# Altium schematic symbol library ICs.SchLib: 88 symbols (part 1 of 2)
Pins are listed as number, name and electrical type; pins without a type are passive.

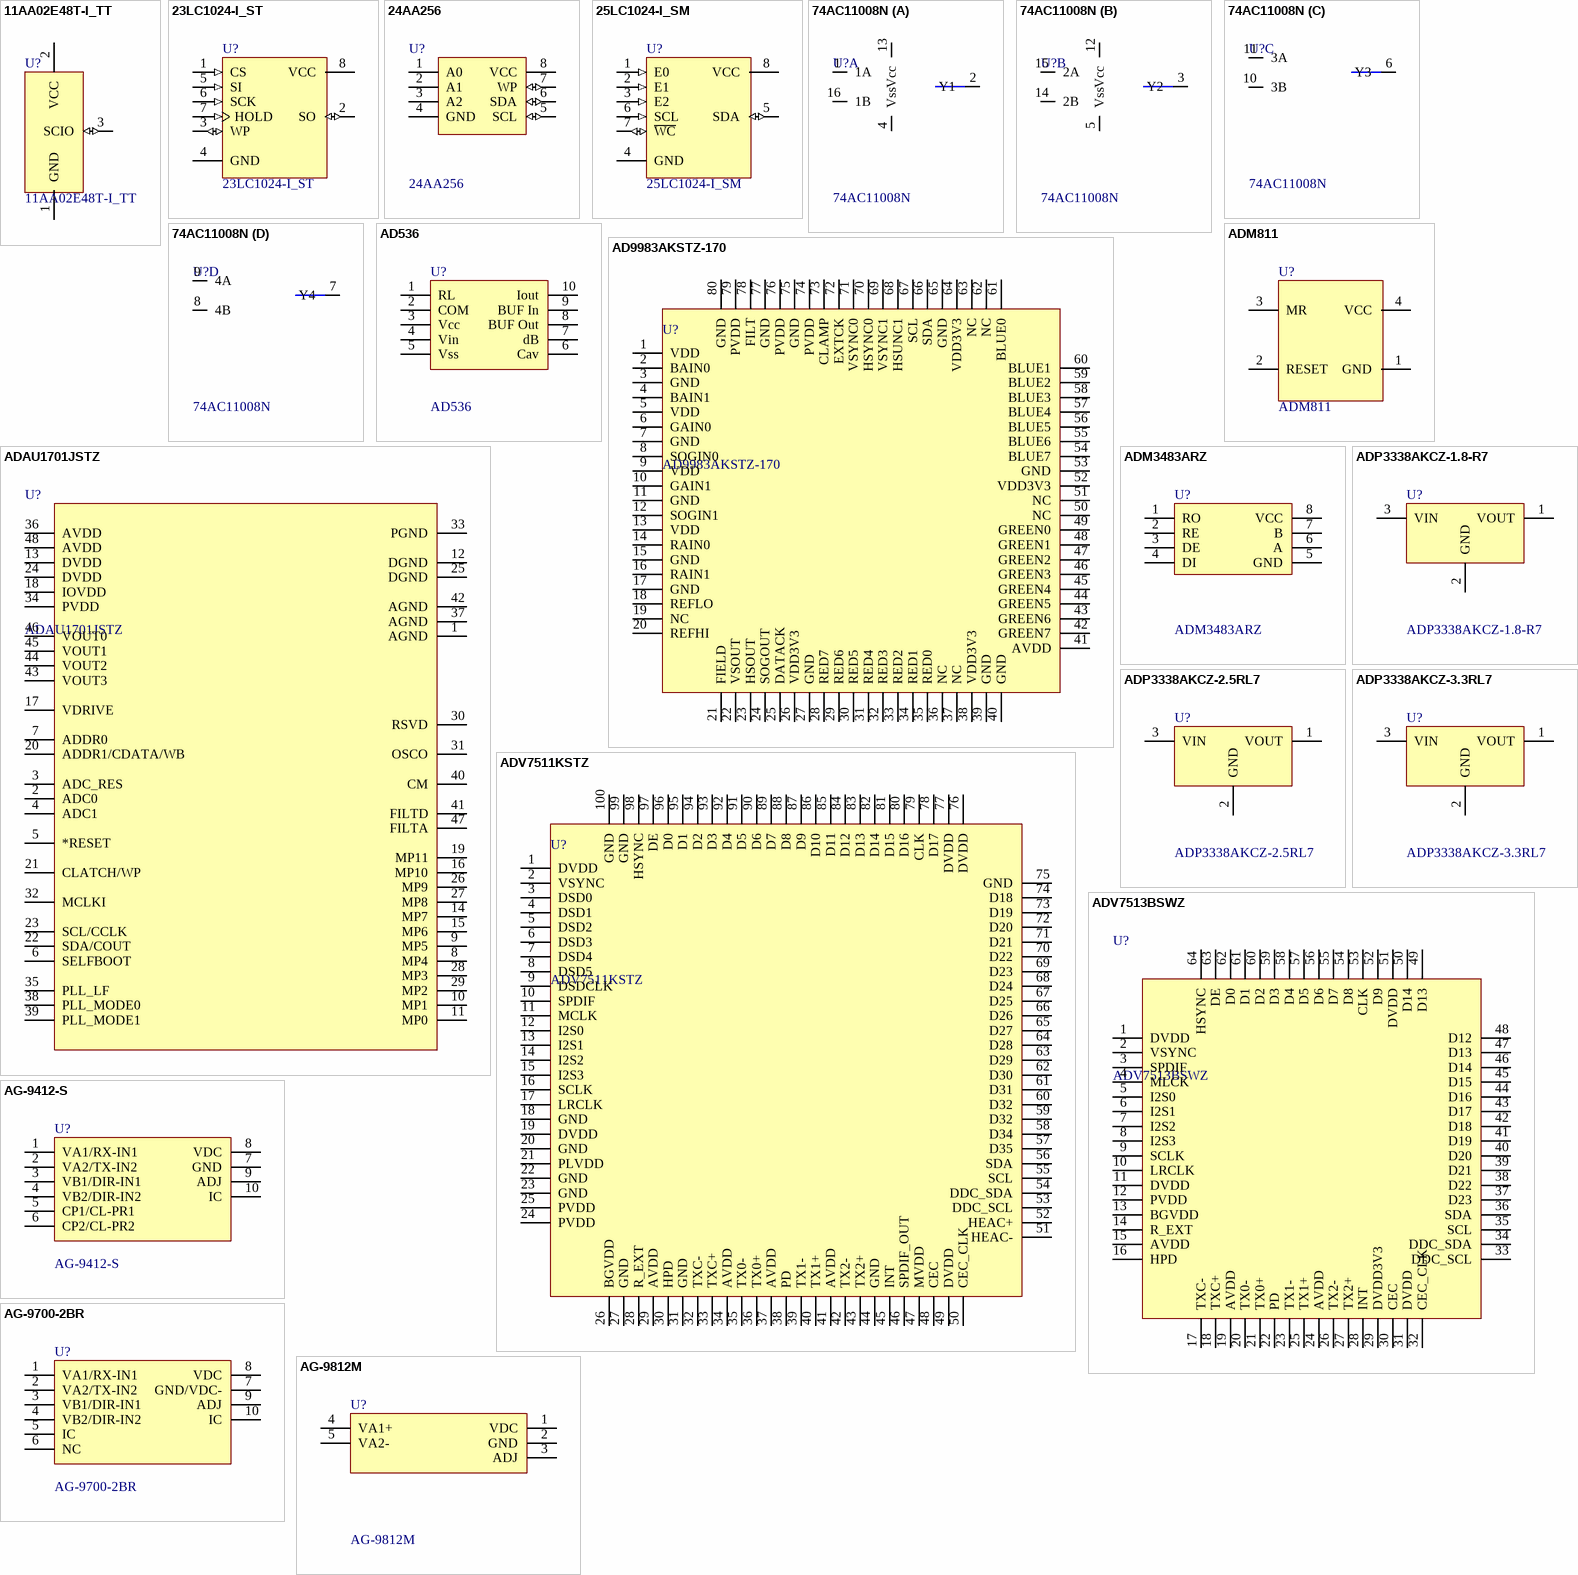
[diagram p0: symbols 11AA02E48T-I_TT to AG-9812M]

## 11AA02E48T-I_TT
designator U?
2 kbit Serial  EEPROM; Deliverer PartNr: 1707616RL; Manufacturer PartNr: 11AA02E48T-I/TT; Manufacturer: Microchip; Deliverer: Farnell; TDE-PN: IC0035; Published: 12.02.2014; PackageDescription: SOT23; Publisher: Sebastian Kulik
footprint SOT23_M (SOT23, 3-Leads, Body 2.9x1.3mm, Pitch 0.95mm, Lead Span 2.3mm - Reverse Pinning, IPC Low Density)
pins: 1 GND (power), 2 VCC (power), 3 SCIO (io)

## 23LC1024-I_ST
designator U?
1 Mbit Serial  EEPROM; Deliverer PartNr: 2212151; Manufacturer PartNr: 23LC1024-I/ST; Manufacturer: Microchip; Deliverer: Farnell; TDE-PN: IC0034; Published: 12.02.2014; PackageDescription: TSSOP8; Publisher: Sebastian Kulik
footprint TSSOP8 (Shrink Small Outline, Plastic, Thin; 8 Leads; Body Width 4.4 mm; Pitch 0.65 mm)
pins: 1 CS (in), 2 SO (io), 3 WP (io), 4 GND (power), 5 SI (in), 6 SCK (in), 7 HOLD (in), 8 VCC (power)

## 24AA256
designator U?
I2C  EEPROM; Deliverer PartNr: 1331295; Manufacturer: Microchip; Deliverer: Farnell; TDE-PN: IC0005; Published: 28.03.2014; PackageDescription: TSSOP8; Publisher: Sebastian Kulik; Manufacturer PartNr: 24AA256
footprint TSSOP8 (Shrink Small Outline, Plastic, Thin; 8 Leads; Body Width 4.4 mm; Pitch 0.65 mm)
pins: 1 A0, 2 A1, 3 A2, 4 GND (power), 5 SCL (io), 6 SDA (io), 7 WP (io), 8 VCC (power)

## 25LC1024-I_SM
designator U?
1024 Kbit Serial SPI Bus EEPROM; Deliverer PartNr: 1331393; Manufacturer: Microchip; Deliverer: Farnell; TDE-PN: IC0033; Published: 12.02.2014; PackageDescription: SOP8; Publisher: Sebastian Kulik; Manufacturer PartNr: 25LC1024-I_SM
footprint SOP8_N (SOIC, 8-Leads, Body 4.9x3.9mm, Pitch 1.27mm, IPC Medium Density)
footprint SOP8_L (SOIC, 8-Leads, Body 4.9x3.9mm, Pitch 1.27mm, IPC High Density)
footprint SOP8_M (SOIC, 8-Leads, Body 4.9x3.9mm, Pitch 1.27mm, IPC Low Density)
pins: 1 E0 (in), 2 E1 (in), 3 E2 (in), 4 GND (power), 5 SDA (io), 6 SCL (in), 7 ~{WC} (io), 8 VCC (power)

## 74AC11008N
designator U?
Quad AND, TTL; Deliverer PartNr: 1749860; Manufacturer: TI; Deliverer: Farnell; TDE-PN: IC0083; Published: 16.08.2016; PackageDescription: SOIC16; Publisher: Sebastian Kulik; Manufacturer PartNr: 74AC11008N; Price: 1.45
footprint DIP-16 (DIP; 16 Leads; Row Spacing 7.62 mm; Pitch 2.54 mm)
footprint SO-16_L (SOIC, 16-Leads, Body 9.9x3.9mm, Pitch 1.27mm, IPC High Density)
part A pins: 1 1A, 2 Y1, 4 Vss, 13 Vcc, 16 1B
part B pins: 3 Y2, 5 Vss, 12 Vcc, 14 2B, 15 2A
part C pins: 6 Y3, 10 3B, 11 3A
part D pins: 7 Y4, 8 4B, 9 4A

## AD536
designator U?
RMS converter; Deliverer PartNr: 405360; Manufacturer PartNr: AD536AJH; Manufacturer: ADI; Deliverer: Farnell; TDE-PN: IC0054; Published: 24.10.2014; PackageDescription: TO100-10; Publisher: Sebastian Kulik
footprint TO100-10 (TO100-10 Pin, 4mm radius)
pins: 1 RL, 2 COM, 3 Vcc, 4 Vin, 5 Vss, 6 Cav, 7 dB, 8 BUF Out, 9 BUF In, 10 Iout

## AD9983AKSTZ-170
designator U?
8 bit display interface; Deliverer PartNr: 759-2124; Manufacturer: ADI; Deliverer: RS-Components; TDE-PN: IC0008; Published: 27.03.2014; PackageDescription: TQFP80; Publisher: Sebastian Kulik; Manufacturer PartNr: AD9983AKSTZ-170
footprint TQFP80-1_L (Thin QFP, 80-Leads, Body 12x12mm, Pitch 0.5mm, IPC High Density)
footprint TQFP80-1_N (Thin QFP, 80-Leads, Body 12x12mm, Pitch 0.5mm, IPC Medium Density)
footprint TQFP80-1_N (Thin QFP, 80-Leads, Body 12x12mm, Pitch 0.5mm, IPC Medium Density)
pins: 1 VDD, 2 BAIN0, 3 GND, 4 BAIN1, 5 VDD, 6 GAIN0, 7 GND, 8 SOGIN0, 9 VDD, 10 GAIN1, 11 GND, 12 SOGIN1, 13 VDD, 14 RAIN0, 15 GND, 16 RAIN1, 17 GND, 18 REFLO, 19 NC, 20 REFHI, 21 FIELD, 22 VSOUT, 23 HSOUT, 24 SOGOUT, 25 DATACK, 26 VDD3V3, 27 GND, 28 RED7, 29 RED6, 30 RED5, 31 RED4, 32 RED3, 33 RED2, 34 RED1, 35 RED0, 36 NC, 37 NC, 38 VDD3V3, 39 GND, 40 GND, 41 AVDD, 42 GREEN7, 43 GREEN6, 44 GREEN5, 45 GREEN4, 46 GREEN3, 47 GREEN2, 48 GREEN1, 49 GREEN0, 50 NC, 51 NC, 52 VDD3V3, 53 GND, 54 BLUE7, 55 BLUE6, 56 BLUE5, 57 BLUE4, 58 BLUE3, 59 BLUE2, 60 BLUE1, 61 BLUE0, 62 NC, 63 NC, 64 VDD3V3, 65 GND, 66 SDA, 67 SCL, 68 HSUNC1, 69 VSYNC1, 70 HSYNC0, 71 VSYNC0, 72 EXTCK, 73 CLAMP, 74 PVDD, 75 GND, 76 PVDD, 77 GND, 78 FILT, 79 PVDD, 80 GND

## ADAU1701JSTZ
designator U?
Sigma DSP; Deliverer PartNr: 1498728; Manufacturer: ADI; Deliverer: Farnell; TDE-PN: IC0045; Published: 28.03.2014; PackageDescription: TQFP48; Publisher: Sebastian Kulik; Manufacturer PartNr: ADAU1701JSTZ
footprint TQFP48
pins: 1 AGND, 2 ADC0, 3 ADC_RES, 4 ADC1, 5 *RESET, 6 SELFBOOT, 7 ADDR0, 8 MP4, 9 MP5, 10 MP1, 11 MP0, 12 DGND, 13 DVDD, 14 MP7, 15 MP6, 16 MP10, 17 VDRIVE, 18 IOVDD, 19 MP11, 20 ADDR1/CDATA/WB, 21 CLATCH/WP, 22 SDA/COUT, 23 SCL/CCLK, 24 DVDD, 25 DGND, 26 MP9, 27 MP8, 28 MP3, 29 MP2, 30 RSVD, 31 OSCO, 32 MCLKI, 33 PGND, 34 PVDD, 35 PLL_LF, 36 AVDD, 37 AGND, 38 PLL_MODE0, 39 PLL_MODE1, 40 CM, 41 FILTD, 42 AGND, 43 VOUT3, 44 VOUT2, 45 VOUT1, 46 VOUT0, 47 FILTA, 48 AVDD

## ADM811
designator U?
ADI Supervisor Reset, 3V3; Deliverer PartNr: 2074891RL; Manufacturer PartNr: ADM811LARTZ-REEL7; Deliverer: Farnell; TDE-PN: IC0009; Published: 26.03.2014; PackageDescription: SOT143; Publisher: Sebastian Kulik; Manufacturer: ADI
footprint SOT124
pins: 1 GND, 2 RESET, 3 MR, 4 VCC (power)

## ADM3483ARZ
designator U?
Transceiver, RS485/422; Deliverer PartNr: 1274169; Manufacturer: ADI; Deliverer: Farnell; TDE-PN: IC0041; Published: 25.02.2014; PackageDescription: TSSOP8; Publisher: Sebastian Kulik; Manufacturer PartNr: ADM3483ARZ
footprint SOIC8_N (SOIC, 8-Leads, Body 4.9x3.9mm, Pitch 1.27mm, IPC Medium Density)
pins: 1 RO, 2 RE, 3 DE, 4 DI, 5 GND, 6 A, 7 B, 8 VCC (power)

## ADP3338AKCZ-1.8-R7
designator U?
LDO, 1V8_1A; Deliverer PartNr: 2112616; Manufacturer: ADI; Deliverer: Farnell; TDE-PN: IC0001; Published: 26.03.2014; PackageDescription: SOT223-1; Publisher: Sebastian Kulik; Manufacturer PartNr: ADP3338AKCZ-1.8-R7
footprint SOT223-1
pins: 1 VOUT, 2 GND, 3 VIN

## ADP3338AKCZ-2.5RL7
designator U?
LDO, 2V5_1A; Deliverer PartNr: 1651282RL; Manufacturer: ADI; Deliverer: Farnell; TDE-PN: IC0002; Published: 26.03.2014; PackageDescription: SOT223-1; Publisher: Sebastian Kulik; Manufacturer PartNr: ADP3338AKCZ-2.5RL7
footprint SOT223-1
pins: 1 VOUT, 2 GND, 3 VIN

## ADP3338AKCZ-3.3RL7
designator U?
LDO, 3V3_1A; Deliverer PartNr: 1651283; Manufacturer: ADI; Deliverer: Farnell; TDE-PN: IC0003; Published: 26.03.2014; PackageDescription: SOT223-1; Publisher: Sebastian Kulik; Manufacturer PartNr: ADP3338AKCZ-3.3RL7
footprint SOT223-1
pins: 1 VOUT, 2 GND, 3 VIN

## ADV7511KSTZ
designator U?
HDMI interface; Deliverer PartNr: 2312822; Manufacturer: ADI; Deliverer: Farnell; TDE-PN: IC0010; Published: 27.03.2014; PackageDescription: LQFP100; Publisher: Sebastian Kulik; Manufacturer PartNr: ADV7511KSTZ
footprint LQFP100
pins: 1 DVDD, 2 VSYNC, 3 DSD0, 4 DSD1, 5 DSD2, 6 DSD3, 7 DSD4, 8 DSD5, 9 DSDCLK, 10 SPDIF, 11 MCLK, 12 I2S0, 13 I2S1, 14 I2S2, 15 I2S3, 16 SCLK, 17 LRCLK, 18 GND, 19 DVDD, 20 GND, 21 PLVDD, 22 GND, 23 GND, 24 PVDD, 25 PVDD, 26 BGVDD, 27 GND, 28 R_EXT, 29 AVDD, 30 HPD, 31 GND, 32 TXC-, 33 TXC+, 34 AVDD, 35 TX0-, 36 TX0+, 37 AVDD, 38 PD, 39 TX1-, 40 TX1+, 41 AVDD, 42 TX2-, 43 TX2+, 44 GND, 45 INT, 46 SPDIF_OUT, 47 MVDD, 48 CEC, 49 DVDD, 50 CEC_CLK, 51 HEAC-, 52 HEAC+, 53 DDC_SCL, 54 DDC_SDA, 55 SCL, 56 SDA, 57 D35, 58 D34, 59 D32, 60 D32, 61 D31, 62 D30, 63 D29, 64 D28, 65 D27, 66 D26, 67 D25, 68 D24, 69 D23, 70 D22, 71 D21, 72 D20, 73 D19, 74 D18, 75 GND, 76 DVDD, 77 DVDD, 78 D17, 79 CLK, 80 D16, 81 D15, 82 D14, 83 D13, 84 D12, 85 D11, 86 D10, 87 D9, 88 D8, 89 D7, 90 D6, 91 D5, 92 D4, 93 D3, 94 D2, 95 D1, 96 D0, 97 DE, 98 HSYNC, 99 GND, 100 GND

## ADV7513BSWZ
designator U?
HDMI transmitter; Deliverer PartNr: ADV7513BSWZ-ND; Manufacturer: ADI; Deliverer: Digi Key; TDE-PN: IC0011; Published: 27.03.2014; PackageDescription: TQFP64; Publisher: Sebastian Kulik; Manufacturer PartNr: ADV7513BSWZ
footprint TQFP-64_N1 (64-Pin Thin Plastic Quad Flat Pack 0.5 mm Pitch, 1.0/0.1 mm Lead Form, IPC Medium Density)
pins: 1 DVDD, 2 VSYNC, 3 SPDIF, 4 MLCK, 5 I2S0, 6 I2S1, 7 I2S2, 8 I2S3, 9 SCLK, 10 LRCLK, 11 DVDD, 12 PVDD, 13 BGVDD, 14 R_EXT, 15 AVDD, 16 HPD, 17 TXC-, 18 TXC+, 19 AVDD, 20 TX0-, 21 TX0+, 22 PD, 23 TX1-, 24 AVDD, 25 TX1+, 26 TX2-, 27 TX2+, 28 INT, 29 DVDD3V3, 30 CEC, 31 DVDD, 32 CEC_CLK, 33 DDC_SCL, 34 DDC_SDA, 35 SCL, 36 SDA, 37 D23, 38 D22, 39 D21, 40 D20, 41 D19, 42 D18, 43 D17, 44 D16, 45 D15, 46 D14, 47 D13, 48 D12, 49 D13, 50 D14, 51 DVDD, 52 D9, 53 CLK, 54 D8, 55 D7, 56 D6, 57 D5, 58 D4, 59 D3, 60 D2, 61 D1, 62 D0, 63 DE, 64 HSYNC

## AG-9412-S
designator U?
PoE, 12V; Manufacturer: Silvertel; TDE-PN: IC0038; Published: 17.02.2014; Deliverer PartNr: -; Deliverer: -; PackageDescription: AG-9412-S; Publisher: Sebastian Kulik; Manufacturer PartNr: AG-9412-S
footprint AG-9412-S
footprint AG-9412-S-1
pins: 1 VA1/RX-IN1, 2 VA2/TX-IN2, 3 VB1/DIR-IN1, 4 VB2/DIR-IN2, 5 CP1/CL-PR1, 6 CP2/CL-PR2, 7 GND, 8 VDC (power), 9 ADJ, 10 IC

## AG-9700-2BR
designator U?
PoE, 12V, 12W; Manufacturer: Silvertel; TDE-PN: IC0047; Published: 23.05.2014; Deliverer PartNr: -; Deliverer: -; PackageDescription: AG9700-2BR; Publisher: Sebastian Kulik; Manufacturer PartNr: AG-9700-2BR
footprint Ag9700-2BR (Silvertel, Ag9700-Small)
pins: 1 VA1/RX-IN1, 2 VA2/TX-IN2, 3 VB1/DIR-IN1, 4 VB2/DIR-IN2, 5 IC, 6 NC, 7 GND/VDC-, 8 VDC (power), 9 ADJ, 10 IC

## AG-9812M
designator U?
PoE, 12V; Manufacturer: Silvertel; Deliverer: Codico; TDE-PN: IC0052; Published: 17.02.2014; Deliverer PartNr: AG-9812M; PackageDescription: AG9812M; Publisher: Sebastian Kulik; Manufacturer PartNr: AG-9812M
footprint Ag9812M (Silvertel, Ag9812M)
pins: 1 VDC (power), 2 GND, 3 ADJ, 4 VA1+, 5 VA2-

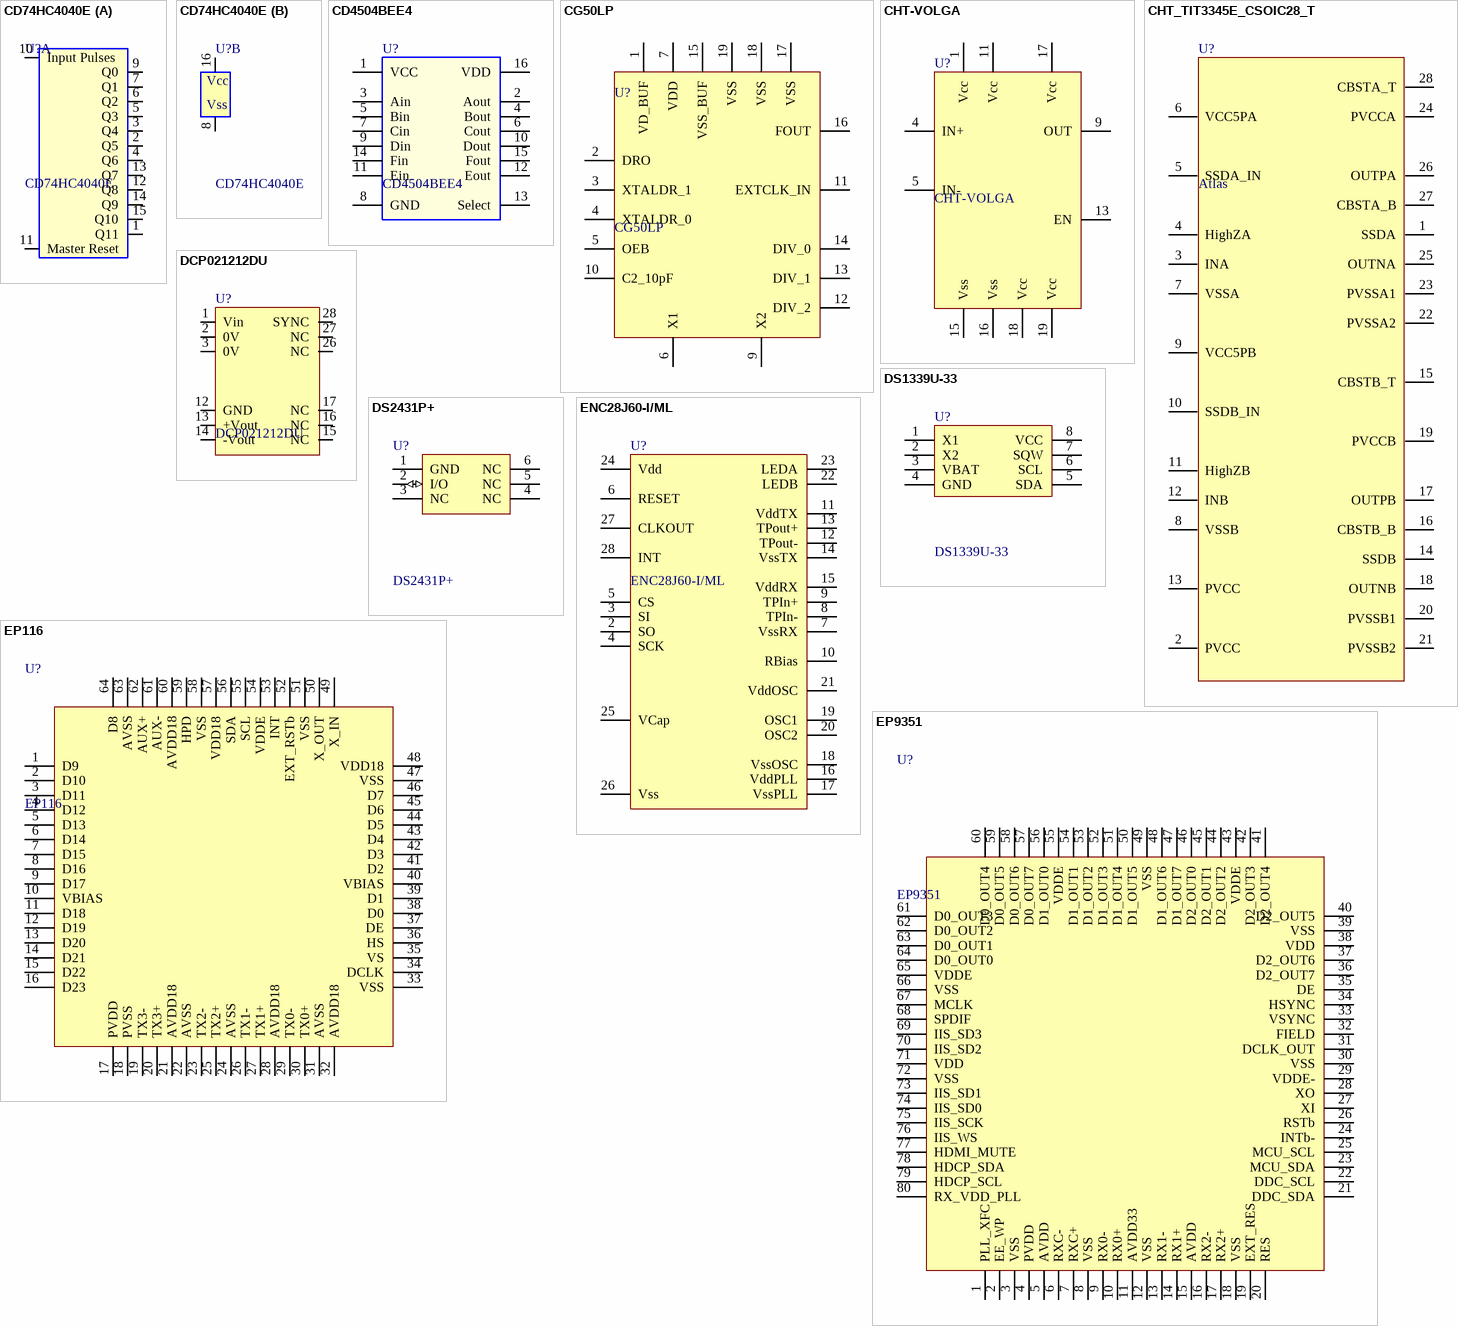
[diagram p1: symbols CD74HC4040E to EP9351]

## CD74HC4040E
designator U?
High Speed CMOS Logic 12-Stage Binary Counter; Deliverer PartNr: 807-2457; Manufacturer: TI; Deliverer: RS; TDE-PN: IC0090; Published: 09.12.2016; PackageDescription: DIP16; Publisher: Sebastian Kulik; Manufacturer PartNr: CD74HC4040E; Price: 0.464/25
footprint DIP-16 (DIP; 16 Leads; Row Spacing 7.62 mm; Pitch 2.54 mm)
part A pins: 1 Q11, 2 Q5, 3 Q4, 4 Q6, 5 Q3, 6 Q2, 7 Q1, 9 Q0, 10 Input Pulses, 11 Master Reset, 12 Q8, 13 Q7, 14 Q9, 15 Q10
part B pins: 8 Vss, 16 Vcc

## CD4504BEE4
designator U?
20V Level shifter; Deliverer PartNr: 709-2545; Manufacturer: TI; Deliverer: RS; TDE-PN: IC00084; Published: 16.08.2016; PackageDescription: DIP16; Publisher: Sebastian Kulik; Manufacturer PartNr: CD4504BEE4; Price: 0.204/10
footprint DIP-16 (DIP; 16 Leads; Row Spacing 7.62 mm; Pitch 2.54 mm)
pins: 1 VCC, 2 Aout, 3 Ain, 4 Bout, 5 Bin, 6 Cout, 7 Cin, 8 GND, 9 Din, 10 Dout, 11 Ein, 12 Eout, 13 Select, 14 Fin, 15 Fout, 16 VDD

## CG50LP
designator U?
VERSATILE CRYSTAL CLOCK GENERATOR - 2ND GEN; Deliverer: CISSOID; TDE-PN: IC0085; Published: 22.11.2016; Deliverer PartNr: CG50LP; PackageDescription: TDFP16; Publisher: Sebastian Kulik; Manufacturer PartNr: CG50LP; Manufacturer: CISSOID; Price: --
footprint TDFP16
pins: 1 VD_BUF, 2 DRO, 3 XTALDR_1, 4 XTALDR_0 (power), 5 OEB, 6 X1 (power), 7 VDD (power), 9 X2 (power), 10 C2_10pF (power), 11 EXTCLK_IN, 12 DIV_2 (power), 13 DIV_1 (power), 14 DIV_0 (power), 15 VSS_BUF, 16 FOUT (power), 17 VSS (power), 18 VSS (power), 19 VSS (power)

## CHT-VOLGA
designator U?
Comparator, Hi-Temp, 25MHz; Deliverer: CISSOID; TDE-PN: IC0080; Published: 01.08.2016; Deliverer PartNr: CHT-VOLGA; PackageDescription: DIP16; Publisher: Sebastian Kulik; Manufacturer PartNr: CHT-VOLGA; Manufacturer: CISSOID; Price: 204.93/5
footprint TDFP16
pins: 1 Vcc, 4 IN+, 5 IN-, 9 OUT (power), 11 Vcc (power), 13 EN, 15 Vss (power), 16 Vss, 17 Vcc, 18 Vcc (power), 19 Vcc (power)

## CHT_TIT3345E_CSOIC28_T
designator U?, comment Atlas
Gate driver, 30V, HT; Deliverer PartNr: CHT-TIT3345E-CSOIC28-T; Manufacturer: CISSOID; Deliverer: Future; TDE-PN: IC0075; Published: 12.05.2016; PackageDescription: SOIC28; Publisher: Sebastian Kulik; Manufacturer PartNr: CHT-TIT3345E-CSOIC28-T; Price: 481.89
footprint SOIC28 (SOIC, 28-Leads, Body 8x18mm, Pitch 1.27mm, IPC High Density)
pins: 1 SSDA (power), 2 PVCC, 3 INA, 4 HighZA, 5 SSDA_IN, 6 VCC5PA, 7 VSSA, 8 VSSB, 9 VCC5PB, 10 SSDB_IN, 11 HighZB, 12 INB, 13 PVCC, 14 SSDB (power), 15 CBSTB_T, 16 CBSTB_B, 17 OUTPB (power), 18 OUTNB, 19 PVCCB, 20 PVSSB1 (power), 21 PVSSB2, 22 PVSSA2, 23 PVSSA1 (power), 24 PVCCA, 25 OUTNA, 26 OUTPA (power), 27 CBSTA_B, 28 CBSTA_T (power)

## DCP021212DU
designator U?
Isolated DC-DC converter; Manufacturer: TI; Deliverer: EBV; TDE-PN: IC0046; Published: 20.05.2014; Deliverer PartNr: DCP021212DU; PackageDescription: SO28; Publisher: Sebastian Kulik; Manufacturer PartNr: DCP021212DU
footprint SO28
pins: 1 Vin, 2 0V, 3 0V, 12 GND, 13 +Vout, 14 -Vout, 15 NC, 16 NC, 17 NC, 26 NC, 27 NC, 28 SYNC

## DS1339U-33
designator U?
RTC; Deliverer PartNr: 1379717; Manufacturer: Dallas; Deliverer: Farnell; TDE-PN: IC0042; Published: 25.02.2014; PackageDescription: uSOP8; Publisher: Sebastian Kulik; Manufacturer PartNr: DS1339U-33
footprint uSOP8 (Shrink Small Outline, Plastic, Thin; 8 Leads; Body Width 4.4 mm; Pitch 0.65 mm)
pins: 1 X1, 2 X2, 3 VBAT, 4 GND, 5 SDA, 6 SCL, 7 SQW, 8 VCC (power)

## DS2431P+
designator U?
1-Wire EEPROM; Deliverer PartNr: 1606351; Manufacturer: Maxim; Deliverer: Farnell; TDE-PN: IC0065; Published: 29.04.2015; PackageDescription: TSOP6; Publisher: Sebastian Kulik; Manufacturer PartNr: DS2431P+
footprint TSOP6
pins: 1 GND, 2 I/O (io), 3 NC, 4 NC, 5 NC, 6 NC

## ENC28J60-I/ML
designator U?
Ethernet controller W/SPI; Deliverer PartNr: 1564400; Manufacturer: Microchip; Deliverer: Farnell; TDE-PN: IC0058; Published: 10.11.2014; PackageDescription: QFN28; Publisher: Sebastian Kulik; Manufacturer PartNr: ENC28J60-I/ML
footprint QFN28_LONG_ERRLES
pins: 2 SO, 3 SI, 4 SCK, 5 CS, 6 RESET, 7 VssRX, 8 TPIn-, 9 TPIn+, 10 RBias, 11 VddTX, 12 TPout-, 13 TPout+, 14 VssTX, 15 VddRX, 16 VddPLL, 17 VssPLL, 18 VssOSC, 19 OSC1, 20 OSC2, 21 VddOSC, 22 LEDB, 23 LEDA, 24 Vdd, 25 VCap, 26 Vss, 27 CLKOUT, 28 INT

## EP116
designator U?
DP/eDP transmitter; Manufacturer: Explore; Deliverer: INELTEK; TDE-PN: IC0013; Published: 01.04.2014; Deliverer PartNr: EP116; PackageDescription: LQFP64; Publisher: Sebastian Kulik; Manufacturer PartNr: EP116
footprint LQFP-64 (64-Pin Thin Plastic Quad Flat Pack 0.5 mm Pitch, 0.4mm Lead Form, IPC High Density)
pins: 1 D9, 2 D10, 3 D11, 4 D12, 5 D13, 6 D14, 7 D15, 8 D16, 9 D17, 10 VBIAS, 11 D18, 12 D19, 13 D20, 14 D21, 15 D22, 16 D23, 17 PVDD, 18 PVSS, 19 TX3-, 20 TX3+, 21 AVDD18, 22 AVSS, 23 TX2-, 24 AVSS, 25 TX2+, 26 TX1-, 27 TX1+, 28 AVDD18, 29 TX0-, 30 TX0+, 31 AVSS, 32 AVDD18, 33 VSS, 34 DCLK, 35 VS, 36 HS, 37 DE, 38 D0, 39 D1, 40 VBIAS, 41 D2, 42 D3, 43 D4, 44 D5, 45 D6, 46 D7, 47 VSS, 48 VDD18, 49 X_IN, 50 X_OUT, 51 VSS, 52 EXT_RSTb, 53 INT, 54 VDDE, 55 SCL, 56 SDA, 57 VDD18, 58 VSS, 59 HPD, 60 AVDD18, 61 AUX-, 62 AUX+, 63 AVSS, 64 D8

## EP9351
designator U?
HDMI 1.3 receiver; Manufacturer: Explore; Deliverer: INELTEK; TDE-PN: IC0014; Published: 1.04.2014; Deliverer PartNr: EP9351; PackageDescription: LQFP100; Publisher: Sebastian Kulik; Manufacturer PartNr: EP9351
footprint LQFP80
pins: 1 PLL_XFC, 2 EE_WP, 3 VSS, 4 PVDD, 5 AVDD, 6 RXC-, 7 RXC+, 8 VSS, 9 RX0-, 10 RX0+, 11 AVDD33, 12 VSS, 13 RX1-, 14 RX1+, 15 AVDD, 16 RX2-, 17 RX2+, 18 VSS, 19 EXT_RES, 20 RES, 21 DDC_SDA, 22 DDC_SCL, 23 MCU_SDA, 24 INTb-, 25 MCU_SCL, 26 RSTb, 27 XI, 28 XO, 29 VDDE-, 30 VSS, 31 DCLK_OUT, 32 FIELD, 33 VSYNC, 34 HSYNC, 35 DE, 36 D2_OUT7, 37 D2_OUT6, 38 VDD, 39 VSS, 40 D2_OUT5, 41 D2_OUT4, 42 D2_OUT3, 43 VDDE, 44 D2_OUT2, 45 D2_OUT1, 46 D2_OUT0, 47 D1_OUT7, 48 D1_OUT6, 49 VSS, 50 D1_OUT5, 51 D1_OUT4, 52 D1_OUT3, 53 D1_OUT2, 54 D1_OUT1, 55 VDDE, 56 D1_OUT0, 57 D0_OUT7, 58 D0_OUT6, 59 D0_OUT5, 60 D0_OUT4, 61 D0_OUT3, 62 D0_OUT2, 63 D0_OUT1, 64 D0_OUT0, 65 VDDE, 66 VSS, 67 MCLK, 68 SPDIF, 69 IIS_SD3, 70 IIS_SD2, 71 VDD, 72 VSS, 73 IIS_SD1, 74 IIS_SD0, 75 IIS_SCK, 76 IIS_WS, 77 HDMI_MUTE, 78 HDCP_SDA, 79 HDCP_SCL, 80 RX_VDD_PLL

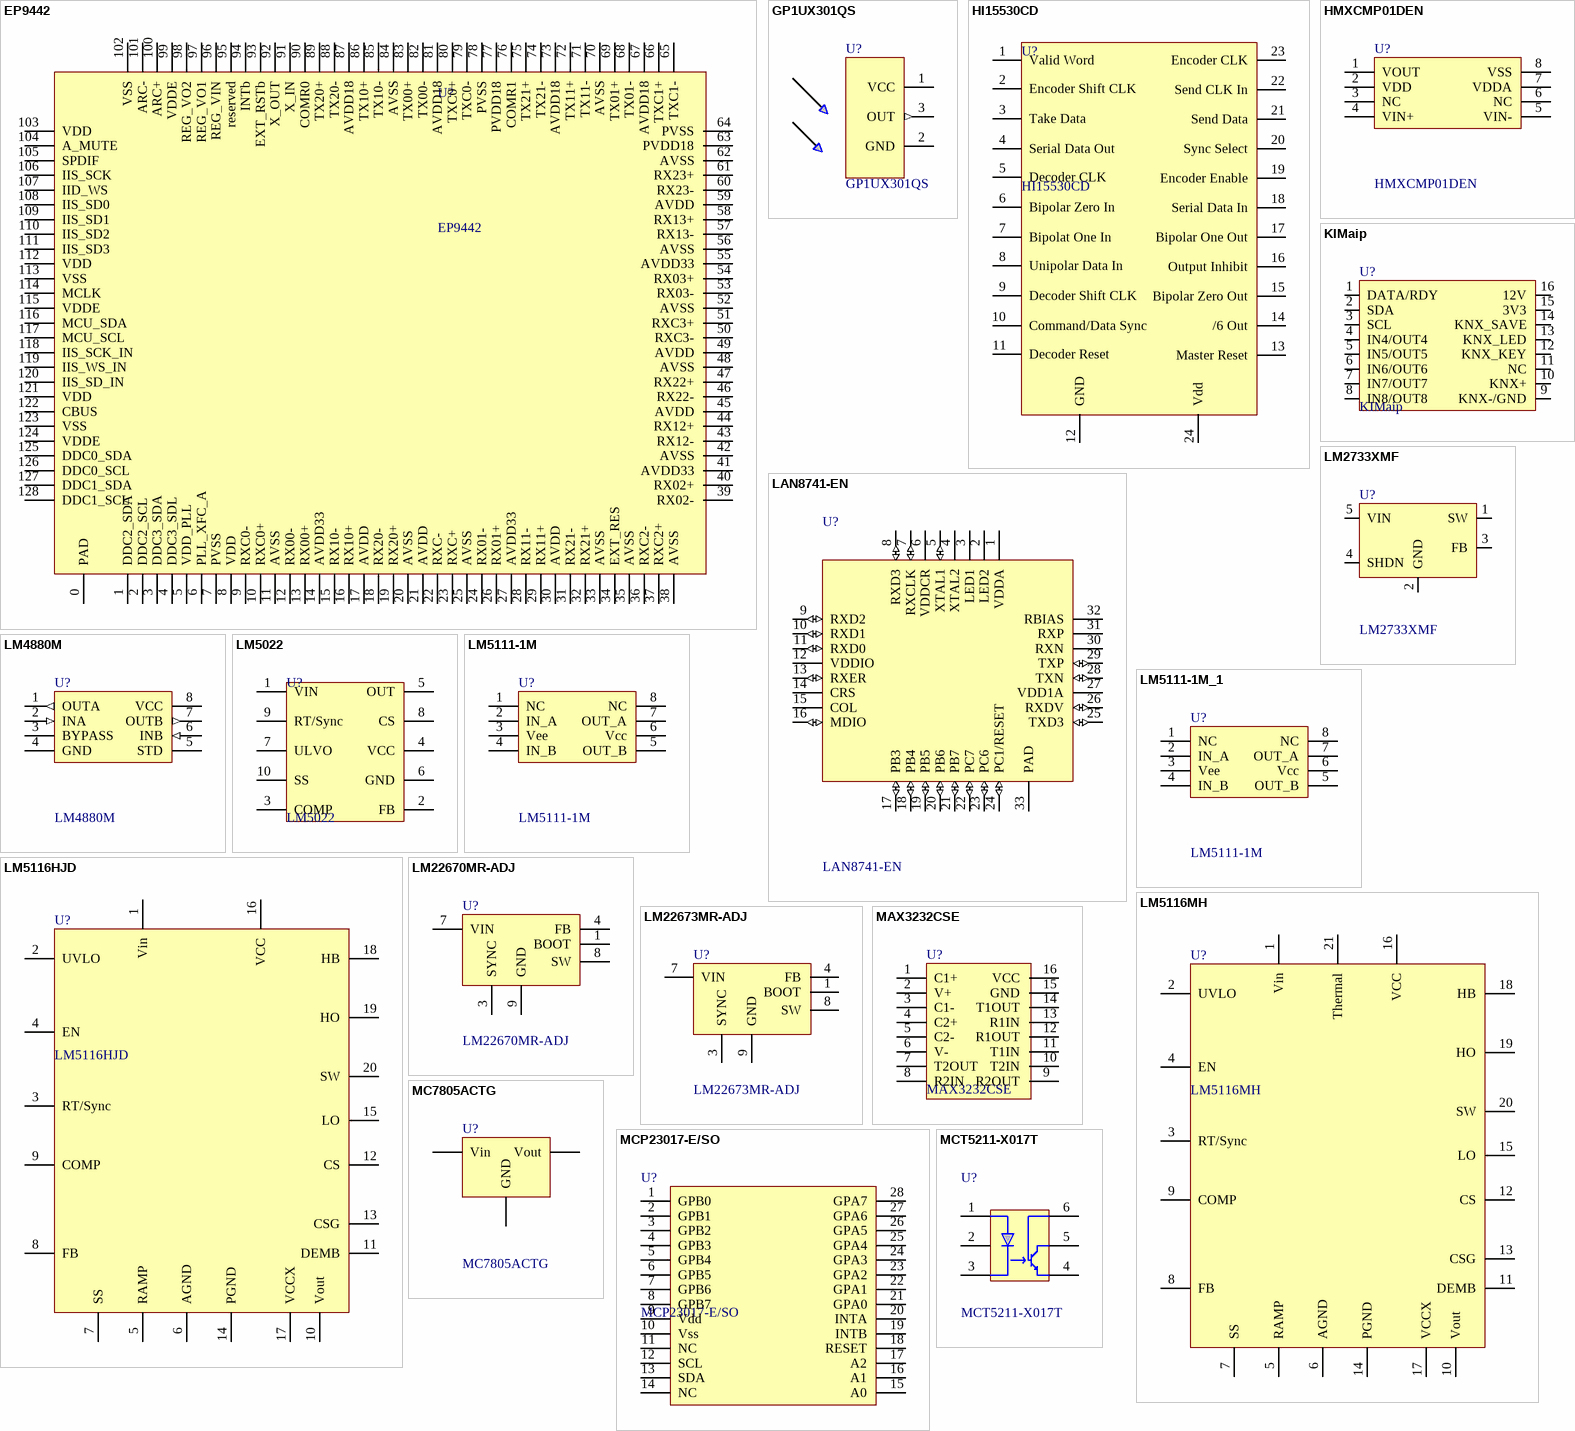
[diagram p2: symbols EP9442 to MCT5211-X017T]

## EP9442
designator U?
HDMI equalizer; Manufacturer: Explore; Deliverer: INELTEK; TDE-PN: IC0015; Published: 27.03.2014; Deliverer PartNr: EP9442; PackageDescription: Quad128; Publisher: Sebastian Kulik; Manufacturer PartNr: EP9442
footprint Quad128
pins: 0 PAD, 1 DDC2_SDA, 2 DDC2_SCL, 3 DDC3_SDA, 4 DDC3_SDL, 5 VDD_PLL, 6 PLL_XFC_A, 7 PVSS, 8 VDD, 9 RXC0-, 10 RXC0+, 11 AVSS, 12 RX00-, 13 RX00+, 14 AVDD33, 15 RX10-, 16 RX10+, 17 AVDD, 18 RX20-, 19 RX20+, 20 AVSS, 21 AVDD, 22 RXC-, 23 RXC+, 24 RX01-, 25 AVSS, 26 RX01+, 27 AVDD33, 28 RX11-, 29 RX11+, 30 AVDD, 31 RX21-, 32 RX21+, 33 AVSS, 34 EXT_RES, 35 AVSS, 36 RXC2-, 37 RXC2+, 38 AVSS, 39 RX02-, 40 RX02+, 41 AVDD33, 42 AVSS, 43 RX12-, 44 RX12+, 45 AVDD, 46 RX22-, 47 RX22+, 48 AVSS, 49 AVDD, 50 RXC3-, 51 RXC3+, 52 AVSS, 53 RX03-, 54 RX03+, 55 AVDD33, 56 AVSS, 57 RX13-, 58 RX13+, 59 AVDD, 60 RX23-, 61 RX23+, 62 AVSS, 63 PVDD18, 64 PVSS, 65 TXC1-, 66 TXC1+, 67 AVDD18, 68 TX01-, 69 TX01+, 70 AVSS, 71 TX11-, 72 TX11+, 73 AVDD18, 74 TX21-, 75 TX21+, 76 COMR1, 77 PVDD18, 78 PVSS, 79 TXC0-, 80 TXC0+, 81 AVDD18, 82 TX00-, 83 TX00+, 84 AVSS, 85 TX10-, 86 TX10+, 87 AVDD18, 88 TX20-, 89 TX20+, 90 COMR0, 91 X_IN, 92 X_OUT, 93 EXT_RSTb, 94 INTb, 95 reserved, 96 REG_VIN, 97 REG_VO1, 98 REG_VO2, 99 VDDE, 100 ARC+, 101 ARC-, 102 VSS, 103 VDD, 104 A_MUTE, 105 SPDIF, 106 IIS_SCK, 107 IID_WS, 108 IIS_SD0, 109 IIS_SD1, 110 IIS_SD2, 111 IIS_SD3, 112 VDD, 113 VSS, 114 MCLK, 115 VDDE, 116 MCU_SDA, 117 MCU_SCL, 118 IIS_SCK_IN, 119 IIS_WS_IN, 120 IIS_SD_IN, 121 VDD, 122 CBUS, 123 VSS, 124 VDDE, 125 DDC0_SDA, 126 DDC0_SCL, 127 DDC1_SDA, 128 DDC1_SCL

## Eye
designator *  (value not drawn)
footprint Eye

## GP1UX301QS
designator U?
IR reseiver; Deliverer PartNr: 666-6542P; Manufacturer: Sharp; Deliverer: RS Components; TDE-PN: IC0039; Published: 17.02.2014; PackageDescription: IR-GP; Publisher: Sebastian Kulik; Manufacturer PartNr: GP1UX301QS
footprint IR-GP
pins: 1 VCC (power), 2 GND (power), 3 OUT (out)

## HI15530CD
designator U?
Manchester Encoder / Decoder; Deliverer PartNr: HI-15530CD; Manufacturer: HolTEc; Deliverer: ProTec; TDE-PN: IC0078; Published: 18.07.2016; PackageDescription: DIP24; Publisher: Sebastian Kulik; Manufacturer PartNr: HI-15530CD; Price: 131.25/1
footprint DIP-24-Ceramic-HT (DIP; 24 Leads; Row Spacing 7.62 mm; Pitch 2.54 mm)
pins: 1 Valid Word, 2 Encoder Shift CLK, 3 Take Data, 4 Serial Data Out, 5 Decoder CLK, 6 Bipolar Zero In, 7 Bipolat One In, 8 Unipolar Data In (power), 9 Decoder Shift CLK (power), 10 Command/Data Sync (power), 11 Decoder Reset (power), 12 GND (power), 13 Master Reset, 14 /6 Out, 15 Bipolar Zero Out (power), 16 Output Inhibit, 17 Bipolar One Out, 18 Serial Data In, 19 Encoder Enable, 20 Sync Select, 21 Send Data, 22 Send CLK In, 23 Encoder CLK, 24 Vdd

## HMXCMP01DEN
designator U?
HiTemp Comparator; Manufacturer: X-Rel; Deliverer: ProTec; TDE-PN: IC0069; Published: 10.12.2015; Deliverer PartNr: HMXCMP01DEN; PackageDescription: Honeywell-SO8; Publisher: Sebastian Kulik; Manufacturer PartNr: HMXCMP01DEN
footprint Honeywell-SO8
pins: 1 VOUT, 2 VDD, 3 NC, 4 VIN+, 5 VIN-, 6 NC, 7 VDDA, 8 VSS

## KIMaip
designator U?
PoE, 12V; Manufacturer: Tapko; TDE-PN: IC0040; Published: 25.02.2014; Deliverer PartNr: -; Deliverer: -; PackageDescription: KIMaip; Publisher: Sebastian Kulik; Manufacturer PartNr: KIMaip
footprint KIMaip
pins: 1 DATA/RDY, 2 SDA, 3 SCL, 4 IN4/OUT4, 5 IN5/OUT5, 6 IN6/OUT6, 7 IN7/OUT7, 8 IN8/OUT8 (power), 9 KNX-/GND, 10 KNX+, 11 NC, 12 KNX_KEY, 13 KNX_LED, 14 KNX_SAVE, 15 3V3, 16 12V

## LAN8741-EN
designator U?
Ethernet Phy; Deliverer PartNr: 2373284; Manufacturer: Microchip; TDE-PN: IC0036; Deliverer: Farnell; Published: 12.02.2014; LatestRevisionNote: IPC-7351 Footprint Added.; Publisher: Sebastian Kulik; Manufacturer PartNr: LAN8741-EN; PackageDescription: 32M1-A-L/M/N
footprint 32M1-A_M (QFN, 32-Leads, Body 5x5mm, Pitch 0.5mm, IPC Low Density)
footprint 32M1-A_L (QFN, 32-Leads, Body 5x5mm, Pitch 0.5mm, IPC High Density)
footprint 32M1-A_N (QFN, 32-Leads, Body 5x5mm, Pitch 0.5mm, IPC Medium Density)
pins: 1 VDDA, 2 LED2, 3 LED1 (power), 4 XTAL2 (power), 5 XTAL1 (io), 6 VDDCR, 7 RXCLK (io), 8 RXD3 (io), 9 RXD2 (io), 10 RXD1 (io), 11 RXD0 (io), 12 VDDIO, 13 RXER (io), 14 CRS, 15 COL, 16 MDIO (io), 17 PB3 (io), 18 PB4 (io), 19 PB5 (io), 20 PB6 (io), 21 PB7 (io), 22 PC7 (io), 23 PC6 (io), 24 PC1/RESET (io), 25 TXD3 (io), 26 RXDV (io), 27 VDD1A, 28 TXN (io), 29 TXP (io), 30 RXN, 31 RXP, 32 RBIAS (power), 33 PAD (power)

## LM2733XMF
designator U?
TI, buck boost converter, 1A max; Deliverer PartNr: LM2733XMF/NOPB; Deliverer: EBV; TDE-PN: IC0051; Published: 30.06.2014; PackageDescription: PDSO-G5; Publisher: Sebastian Kulik; Manufacturer PartNr: LM2733XMF/NOPB; Manufacturer: TI
footprint PDSO-G5
pins: 1 SW (power), 2 GND, 3 FB, 4 SHDN, 5 VIN

## LM4880M
designator U?
Headphone AMP; Deliverer PartNr: 9493921; Manufacturer: TI; Deliverer: Farnell; TDE-PN: IC0018; Published: 28.03.2014; PackageDescription: SOP8_L; Publisher: Sebastian Kulik; Manufacturer PartNr: LM4880M
footprint SOP8_L (SOIC, 8-Leads, Body 4.9x3.9mm, Pitch 1.27mm, IPC High Density)
pins: 1 OUTA (out), 2 INA (in), 3 BYPASS, 4 GND, 5 STD, 6 INB (in), 7 OUTB (out), 8 VCC (power)

## LM5022
designator U?
TI, buck-boost, SEPIC; Deliverer PartNr: 1564781; Deliverer: Farnell; TDE-PN: IC0070; Published: 28.03.2014; PackageDescription: VSOP10; Publisher: Sebastian Kulik; Manufacturer PartNr: LM5022; Manufacturer: TI
footprint VSOP10
pins: 1 VIN, 2 FB (power), 3 COMP, 4 VCC, 5 OUT, 6 GND, 7 ULVO, 8 CS, 9 RT/Sync, 10 SS

## LM5111-1M
designator U?
MosFET gate driver, 5A; Deliverer PartNr: 8238693; Manufacturer: TI; Deliverer: Farnell; TDE-PN: IC0066; Published: 11.11.2015; PackageDescription: SOIC8; Publisher: Sebastian Kulik; Manufacturer PartNr: LM5111-1M
footprint SOIC8_N (SOIC, 8-Leads, Body 4.9x3.9mm, Pitch 1.27mm, IPC Medium Density)
pins: 1 NC, 2 IN_A, 3 Vee, 4 IN_B, 5 OUT_B, 6 Vcc, 7 OUT_A, 8 NC (power)

## LM5111-1M_1
designator U?, comment LM5111-1M
MosFET gate driver, 5A; Deliverer PartNr: 8238693; Manufacturer: TI; Deliverer: Farnell; TDE-PN: IC0066; Published: 11.11.2015; PackageDescription: SOIC8; Publisher: Sebastian Kulik; Manufacturer PartNr: LM5111-1M
footprint SOIC8_N (SOIC, 8-Leads, Body 4.9x3.9mm, Pitch 1.27mm, IPC Medium Density)
pins: 1 NC, 2 IN_A, 3 Vee, 4 IN_B, 5 OUT_B, 6 Vcc, 7 OUT_A, 8 NC (power)

## LM5116HJD
designator U?
Step-Down controller, wide range input, HT; Deliverer PartNr: 595-LM5116HJD; Manufacturer: TI; Deliverer: Mouser; TDE-PN: IC0074; Published: 02.05.2016; PackageDescription: DIP-20-Ceramic-HT; Publisher: Sebastian Kulik; Manufacturer PartNr: LM5116HJD; Price: 156.14/1
footprint DIP-20-Ceramic-HT (DIP; 20 Leads; Row Spacing 7.62 mm; Pitch 2.54 mm)
pins: 1 Vin, 2 UVLO, 3 RT/Sync, 4 EN, 5 RAMP, 6 AGND, 7 SS, 8 FB, 9 COMP, 10 Vout, 11 DEMB, 12 CS, 13 CSG, 14 PGND, 15 LO, 16 VCC, 17 VCCX, 18 HB, 19 HO, 20 SW

## LM5116MH
designator U?
Step-Down controller, wide range input; Deliverer PartNr: 761-5996; Manufacturer: TI; Deliverer: RS; TDE-PN: IC0074; Published: 21.04.2016; PackageDescription: Honeywell-SO8; Publisher: Sebastian Kulik; Manufacturer PartNr: LM5116MH
footprint PWP0020A
pins: 1 Vin, 2 UVLO, 3 RT/Sync, 4 EN, 5 RAMP, 6 AGND, 7 SS, 8 FB, 9 COMP, 10 Vout, 11 DEMB, 12 CS, 13 CSG, 14 PGND, 15 LO, 16 VCC, 17 VCCX, 18 HB, 19 HO, 20 SW, 21 Thermal

## LM22670MR-ADJ
designator U?
TI, step down converter, 3A max; Deliverer PartNr: 1657735; Deliverer: Farnell; TDE-PN: IC0020; Published: 26.03.2014; PackageDescription: PSOP8; Publisher: Sebastian Kulik; Manufacturer PartNr: LM22670MR-ADJ; Manufacturer: TI
footprint PSOP8 (SOIC, 8-Leads, Body 4.9x3.9mm, Pitch 1.27mm, IPC High Density)
pins: 1 BOOT, 3 SYNC, 4 FB (power), 7 VIN, 8 SW, 9 GND

## LM22673MR-ADJ
designator U?
TI, step down converter, 3A max; Deliverer PartNr: 1657736; Deliverer: Farnell; TDE-PN: IC0021; Published: 28.03.2014; PackageDescription: PSOP8; Publisher: Sebastian Kulik; Manufacturer PartNr: LM22673MR-ADJ; Manufacturer: TI
footprint PSOP8 (SOIC, 8-Leads, Body 4.9x3.9mm, Pitch 1.27mm, IPC High Density)
pins: 1 BOOT, 3 SYNC, 4 FB (power), 7 VIN, 8 SW, 9 GND

## MAX3232CSE
designator U?
RS232 transceiver; Deliverer PartNr: 9725490; Manufacturer PartNr: MAX3232CSE+; Manufacturer: Maxim; Deliverer: Farnell; TDE-PN: IC0044; Published: 14.03.2014; PackageDescription: SOIC16_L; Publisher: Sebastian Kulik
footprint SOIC16_L (SOIC, 16-Leads, Body 9.9x3.9mm, Pitch 1.27mm, IPC High Density)
pins: 1 C1+, 2 V+, 3 C1-, 4 C2+, 5 C2-, 6 V-, 7 T2OUT, 8 R2IN, 9 R2OUT, 10 T2IN, 11 T1IN, 12 R1OUT, 13 R1IN, 14 T1OUT, 15 GND, 16 VCC

## MC7805ACTG
designator U?
LDO, 5V; Deliverer PartNr: 9664505; Manufacturer PartNr: ADM811LARTZ-REEL7; Manufacturer: ON-Semi; Deliverer: Farnell; TDE-PN: IC0055; Published: 04.11.2014; PackageDescription: TO220-3; Publisher: Sebastian Kulik
footprint TO220-3
pins: GND, VIN Vin, VOUT Vout (power)

## MCP23017-E/SO
designator U?
I2C mux, 16 bit; Deliverer PartNr: 1332087; Manufacturer: Microchip; Deliverer: Farnell; TDE-PN: IC0049; Published: 23.05.2014; PackageDescription: SSOP28; Publisher: Sebastian Kulik; Manufacturer PartNr: MCP23017-E/SO
footprint SSOP-28 (SSOP, Plastic; 28 Leads; Body Width 5.2 mm; Pitch 0.65 mm)
pins: 1 GPB0, 2 GPB1, 3 GPB2, 4 GPB3, 5 GPB4, 6 GPB5, 7 GPB6, 8 GPB7, 9 Vdd (power), 10 Vss (power), 11 NC (power), 12 SCL, 13 SDA (power), 14 NC, 15 A0, 16 A1, 17 A2, 18 RESET, 19 INTB, 20 INTA, 21 GPA0, 22 GPA1, 23 GPA2, 24 GPA3, 25 GPA4, 26 GPA5, 27 GPA6, 28 GPA7

## MCT5211-X017T
designator U?
OC, low current input; Manufacturer: Vishay; Deliverer: EBV; TDE-PN: IC0053; Published: 07.08.2014; Deliverer PartNr: MCT5211-X017T; PackageDescription: SMD6; Publisher: Sebastian Kulik; Manufacturer PartNr: MCT5211-X017T
footprint SMD-6
pins: 1 A, 2 GND, 3 C, 4 E, 5 C, 6 B

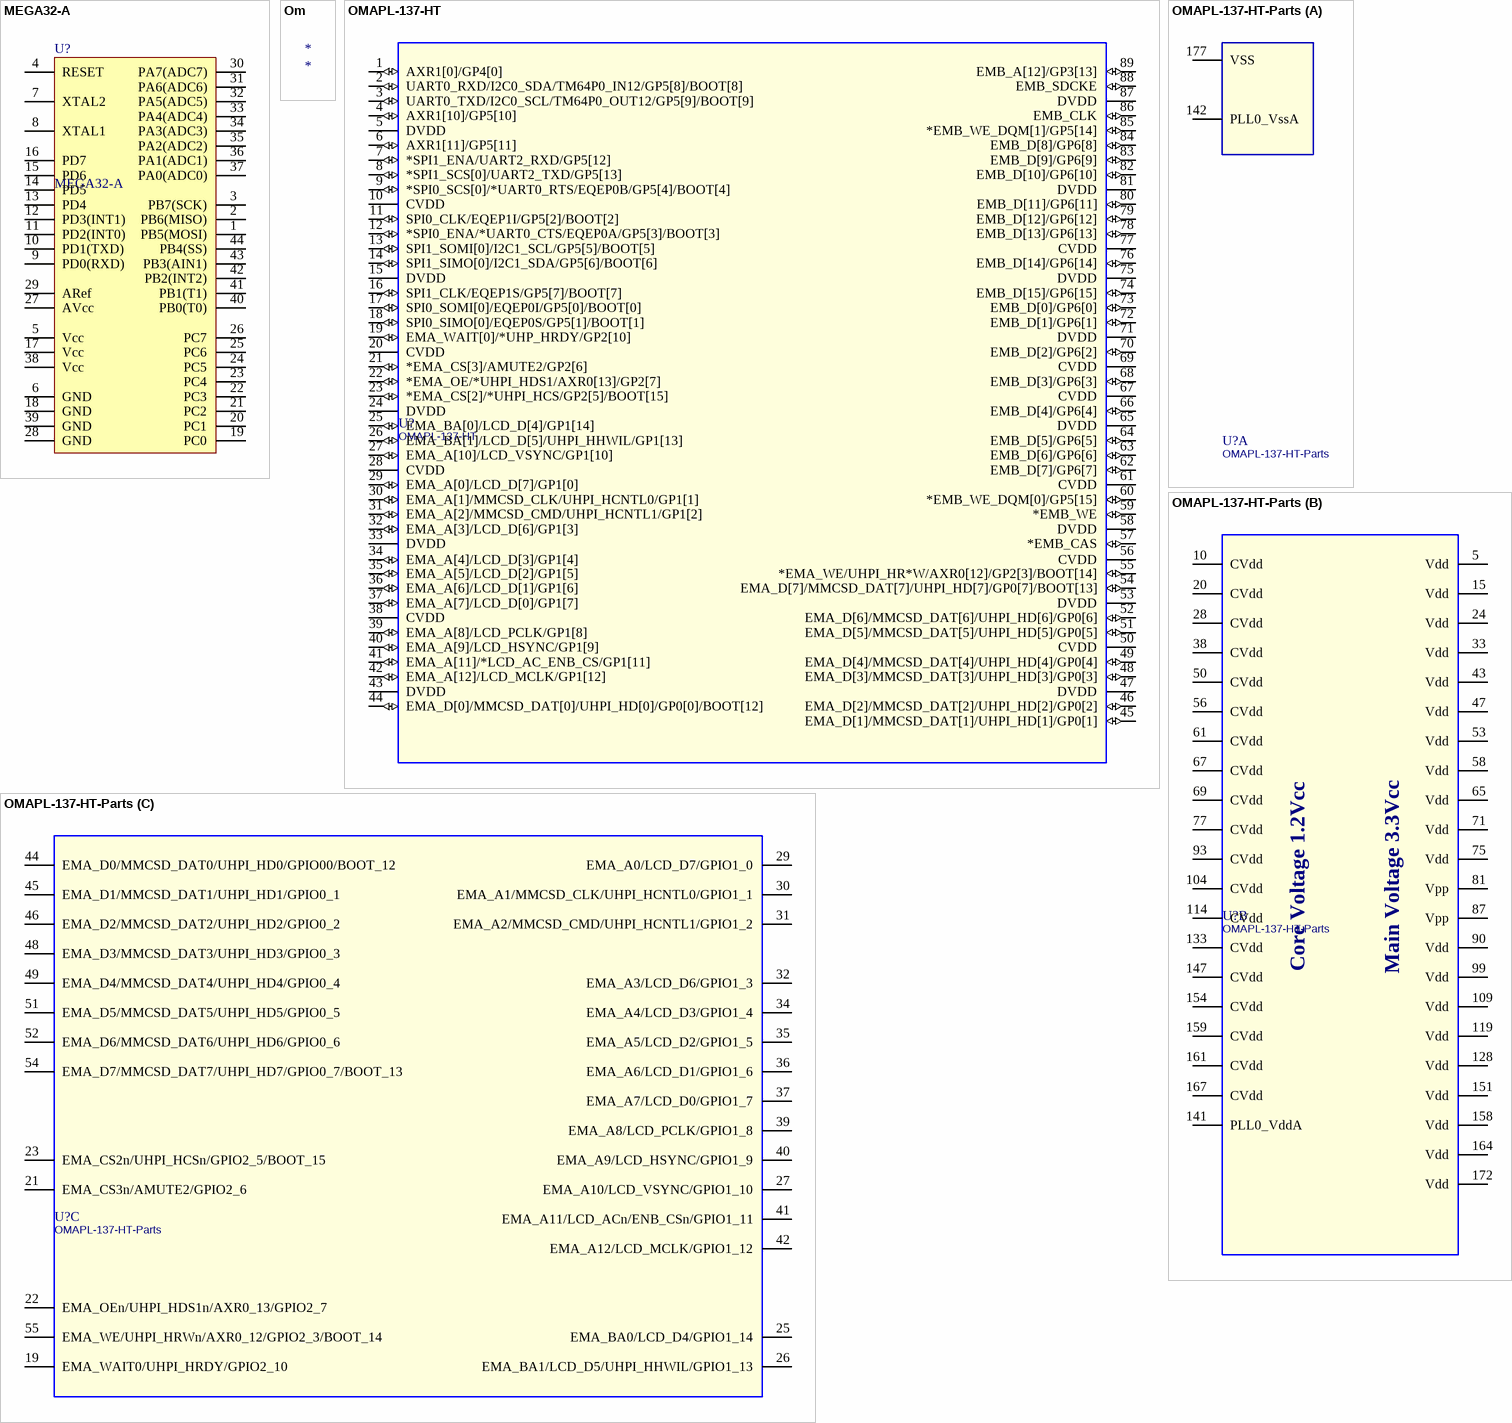
[diagram p3: symbols MEGA32-A to OMAPL-137-HT-Parts]

## MEGA32-A
designator U?
TI, step down converter, 3A max; Manufacturer: Atmel; TDE-PN: IC0057; Published: 10.11.2014; Deliverer PartNr: ?; Deliverer: ?; PackageDescription: TQFP-44; Publisher: Sebastian Kulik; Manufacturer PartNr: ?
footprint TQFP44-N (Thin QFP, 44-Leads, Body 10x10mm, Pitch 0.8mm, IPC Low Density)
pins: 1 PB5(MOSI), 2 PB6(MISO), 3 PB7(SCK), 4 RESET, 5 Vcc, 6 GND, 7 XTAL2, 8 XTAL1, 9 PD0(RXD), 10 PD1(TXD), 11 PD2(INT0), 12 PD3(INT1), 13 PD4, 14 PD5, 15 PD6, 16 PD7, 17 Vcc, 18 GND, 19 PC0, 20 PC1, 21 PC2, 22 PC3, 23 PC4, 24 PC5, 25 PC6, 26 PC7, 27 AVcc, 28 GND, 29 ARef (power), 30 PA7(ADC7), 31 PA6(ADC6), 32 PA5(ADC5), 33 PA4(ADC4), 34 PA3(ADC3), 35 PA2(ADC2), 36 PA1(ADC1), 37 PA0(ADC0), 38 Vcc, 39 GND, 40 PB0(T0), 41 PB1(T1), 42 PB2(INT2), 43 PB3(AIN1), 44 PB4(SS)

## Om
designator *
footprint Om-5mm

## OMAPL-137-HT
designator U?
Manufacturer: TI; Manufacturer PartNr: OMAPL137BPTPH; TDE-PN: IC0081; Deliverer: *; Deliverer PartNr: *; Published: 10.08.2016; Publisher: Sebastian Kulik; Price: *
footprint PTP176_5P73X7P00
footprint PTP176_5P73X7P01
footprint PTP176_5P73X7P31
pins: 1 AXR1[0]/GP4[0] (io), 2 UART0_RXD/I2C0_SDA/TM64P0_IN12/GP5[8]/BOOT[8] (io), 3 UART0_TXD/I2C0_SCL/TM64P0_OUT12/GP5[9]/BOOT[9] (io), 4 AXR1[10]/GP5[10] (io), 5 DVDD (power), 6 AXR1[11]/GP5[11] (io), 7 *SPI1_ENA/UART2_RXD/GP5[12] (io), 8 *SPI1_SCS[0]/UART2_TXD/GP5[13] (io), 9 *SPI0_SCS[0]/*UART0_RTS/EQEP0B/GP5[4]/BOOT[4] (io), 10 CVDD (power), 11 SPI0_CLK/EQEP1I/GP5[2]/BOOT[2] (io), 12 *SPI0_ENA/*UART0_CTS/EQEP0A/GP5[3]/BOOT[3] (io), 13 SPI1_SOMI[0]/I2C1_SCL/GP5[5]/BOOT[5] (io), 14 SPI1_SIMO[0]/I2C1_SDA/GP5[6]/BOOT[6] (io), 15 DVDD (power), 16 SPI1_CLK/EQEP1S/GP5[7]/BOOT[7] (io), 17 SPI0_SOMI[0]/EQEP0I/GP5[0]/BOOT[0] (io), 18 SPI0_SIMO[0]/EQEP0S/GP5[1]/BOOT[1] (io), 19 EMA_WAIT[0]/*UHP_HRDY/GP2[10] (io), 20 CVDD (power), 21 *EMA_CS[3]/AMUTE2/GP2[6] (io), 22 *EMA_OE/*UHPI_HDS1/AXR0[13]/GP2[7] (io), 23 *EMA_CS[2]/*UHPI_HCS/GP2[5]/BOOT[15] (io), 24 DVDD (power), 25 EMA_BA[0]/LCD_D[4]/GP1[14] (io), 26 EMA_BA[1]/LCD_D[5]/UHPI_HHWIL/GP1[13] (io), 27 EMA_A[10]/LCD_VSYNC/GP1[10] (io), 28 CVDD (power), 29 EMA_A[0]/LCD_D[7]/GP1[0] (io), 30 EMA_A[1]/MMCSD_CLK/UHPI_HCNTL0/GP1[1] (io), 31 EMA_A[2]/MMCSD_CMD/UHPI_HCNTL1/GP1[2] (io), 32 EMA_A[3]/LCD_D[6]/GP1[3] (io), 33 DVDD (power), 34 EMA_A[4]/LCD_D[3]/GP1[4] (io), 35 EMA_A[5]/LCD_D[2]/GP1[5] (io), 36 EMA_A[6]/LCD_D[1]/GP1[6] (io), 37 EMA_A[7]/LCD_D[0]/GP1[7] (io), 38 CVDD (power), 39 EMA_A[8]/LCD_PCLK/GP1[8] (io), 40 EMA_A[9]/LCD_HSYNC/GP1[9] (io), 41 EMA_A[11]/*LCD_AC_ENB_CS/GP1[11] (io), 42 EMA_A[12]/LCD_MCLK/GP1[12] (io), 43 DVDD (power), 44 EMA_D[0]/MMCSD_DAT[0]/UHPI_HD[0]/GP0[0]/BOOT[12] (io), 45 EMA_D[1]/MMCSD_DAT[1]/UHPI_HD[1]/GP0[1] (io), 46 EMA_D[2]/MMCSD_DAT[2]/UHPI_HD[2]/GP0[2] (io), 47 DVDD (power), 48 EMA_D[3]/MMCSD_DAT[3]/UHPI_HD[3]/GP0[3] (io), 49 EMA_D[4]/MMCSD_DAT[4]/UHPI_HD[4]/GP0[4] (io), 50 CVDD (power), 51 EMA_D[5]/MMCSD_DAT[5]/UHPI_HD[5]/GP0[5] (io), 52 EMA_D[6]/MMCSD_DAT[6]/UHPI_HD[6]/GP0[6] (io), 53 DVDD (power), 54 EMA_D[7]/MMCSD_DAT[7]/UHPI_HD[7]/GP0[7]/BOOT[13] (io), 55 *EMA_WE/UHPI_HR*W/AXR0[12]/GP2[3]/BOOT[14] (io), 56 CVDD (power), 57 *EMB_CAS (io), 58 DVDD (power), 59 *EMB_WE (io), 60 *EMB_WE_DQM[0]/GP5[15] (io), 61 CVDD (power), 62 EMB_D[7]/GP6[7] (io), 63 EMB_D[6]/GP6[6] (io), 64 EMB_D[5]/GP6[5] (io), 65 DVDD (power), 66 EMB_D[4]/GP6[4] (io), 67 CVDD (power), 68 EMB_D[3]/GP6[3] (io), 69 CVDD (power), 70 EMB_D[2]/GP6[2] (io), 71 DVDD (power), 72 EMB_D[1]/GP6[1] (io), 73 EMB_D[0]/GP6[0] (io), 74 EMB_D[15]/GP6[15] (io), 75 DVDD (power), 76 EMB_D[14]/GP6[14] (io), 77 CVDD (power), 78 EMB_D[13]/GP6[13] (io), 79 EMB_D[12]/GP6[12] (io), 80 EMB_D[11]/GP6[11] (io), 81 DVDD (power), 82 EMB_D[10]/GP6[10] (io), 83 EMB_D[9]/GP6[9] (io), 84 EMB_D[8]/GP6[8] (io), 85 *EMB_WE_DQM[1]/GP5[14] (io), 86 EMB_CLK (io), 87 DVDD (power), 88 EMB_SDCKE (io), 89 EMB_A[12]/GP3[13] (io)

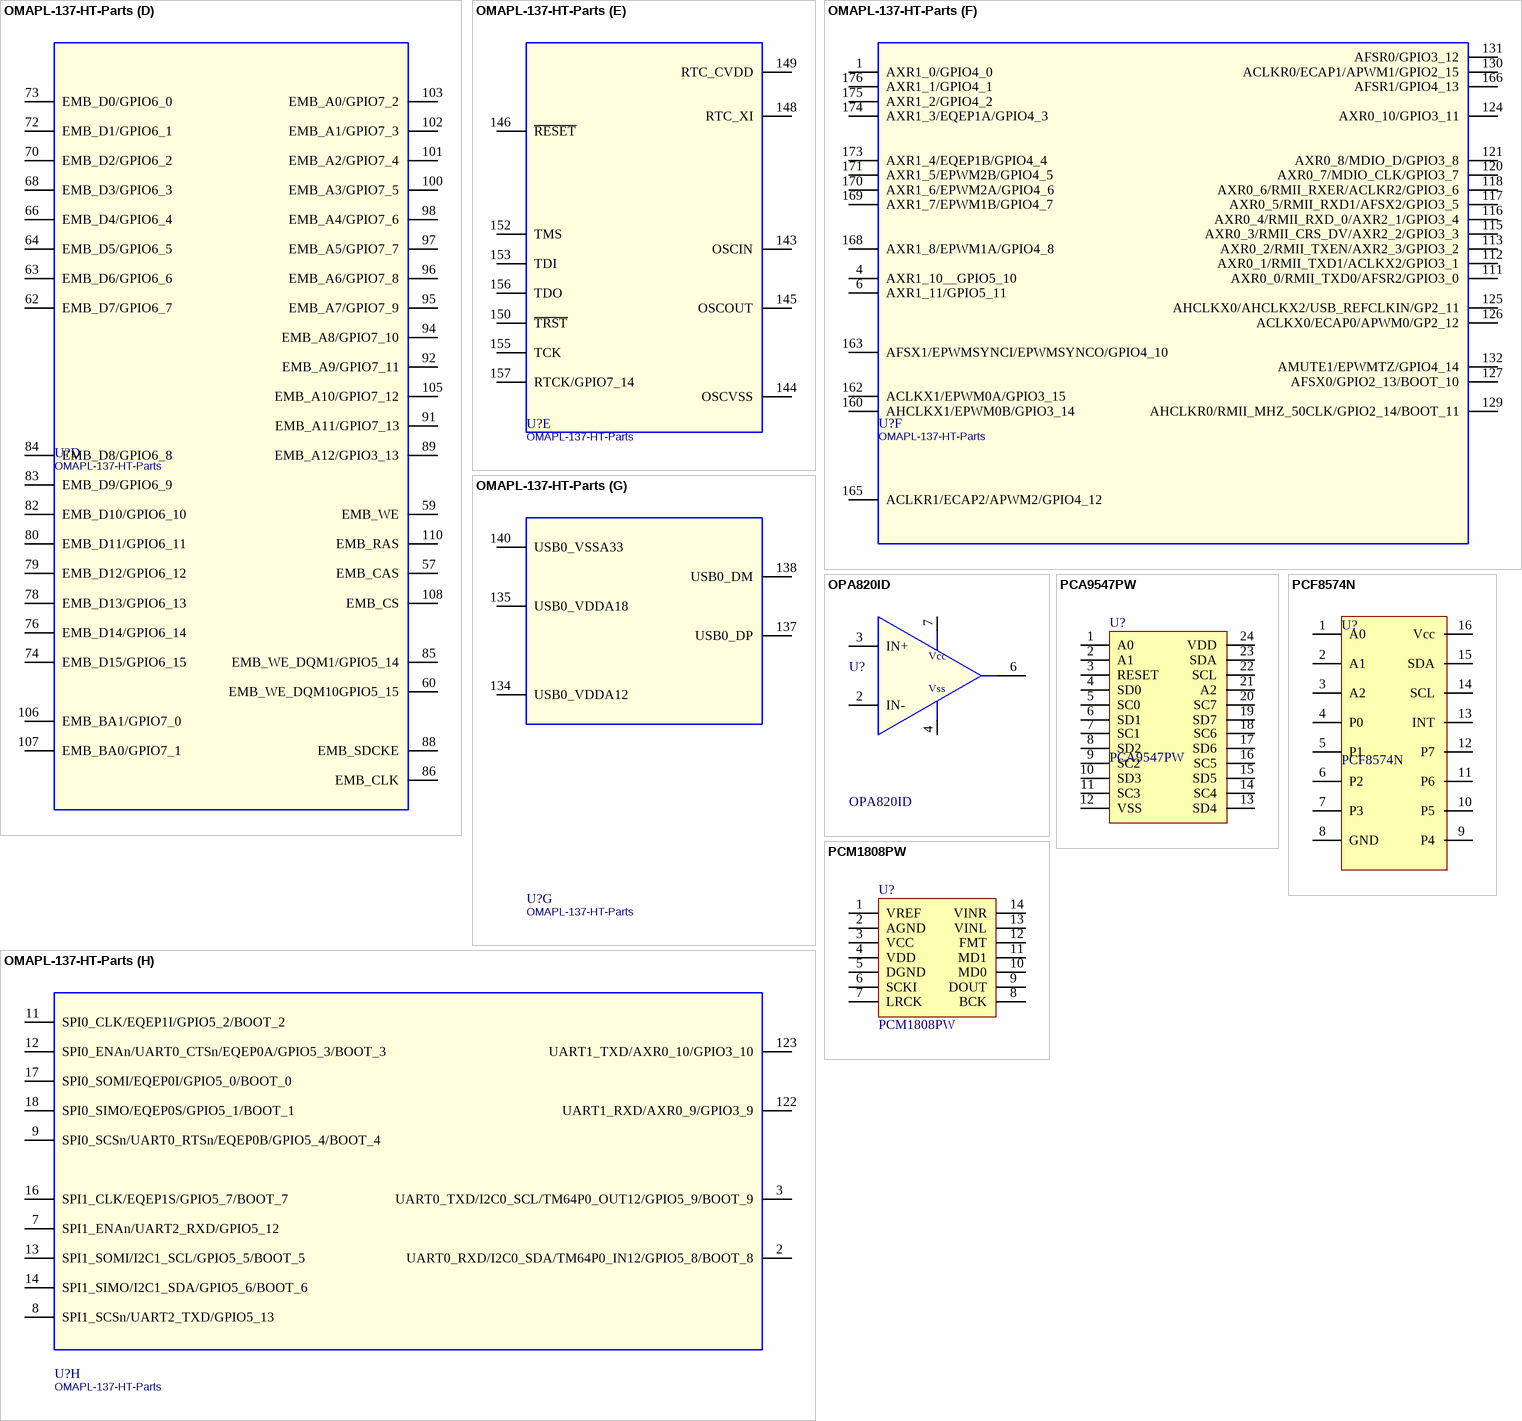
[diagram p4: symbols OMAPL-137-HT-Parts to PCM1808PW]

## OMAPL-137-HT-Parts
designator U?
Manufacturer: TI; Manufacturer PartNr: OMAPL137BPTPH; TDE-PN: IC0081; Deliverer: *; Deliverer PartNr: *; Published: 10.08.2016; Publisher: Sebastian Kulik; Price: *
footprint PTP176_5P73X7P00
footprint PTP176_5P73X7P01
footprint PTP176_5P73X7P31
part A pins: 142 PLL0_VssA (power), 177 VSS (power)
part B pins: 5 Vdd (power), 10 CVdd (power), 15 Vdd (power), 20 CVdd (power), 24 Vdd (power), 28 CVdd (power), 33 Vdd (power), 38 CVdd (power), 43 Vdd (power), 47 Vdd (power), 50 CVdd (power), 53 Vdd (power), 56 CVdd (power), 58 Vdd (power), 61 CVdd (power), 65 Vdd (power), 67 CVdd (power), 69 CVdd (power), 71 Vdd (power), 75 Vdd (power), 77 CVdd (power), 81 Vpp (power), 87 Vpp (power), 90 Vdd (power), 93 CVdd (power), 99 Vdd (power), 104 CVdd (power), 109 Vdd (power), 114 CVdd (power), 119 Vdd (power), 128 Vdd (power), 133 CVdd, 141 PLL0_VddA (power), 147 CVdd (power), 151 Vdd (power), 154 CVdd (power), 158 Vdd (power), 159 CVdd (power), 161 CVdd (power), 164 Vdd (power), 167 CVdd (power), 172 Vdd (power)
part C pins: 19 EMA_WAIT0/UHPI_HRDY/GPIO2_10, 21 EMA_CS3n/AMUTE2/GPIO2_6, 22 EMA_OEn/UHPI_HDS1n/AXR0_13/GPIO2_7, 23 EMA_CS2n/UHPI_HCSn/GPIO2_5/BOOT_15, 25 EMA_BA0/LCD_D4/GPIO1_14, 26 EMA_BA1/LCD_D5/UHPI_HHWIL/GPIO1_13, 27 EMA_A10/LCD_VSYNC/GPIO1_10, 29 EMA_A0/LCD_D7/GPIO1_0, 30 EMA_A1/MMCSD_CLK/UHPI_HCNTL0/GPIO1_1, 31 EMA_A2/MMCSD_CMD/UHPI_HCNTL1/GPIO1_2, 32 EMA_A3/LCD_D6/GPIO1_3, 34 EMA_A4/LCD_D3/GPIO1_4, 35 EMA_A5/LCD_D2/GPIO1_5, 36 EMA_A6/LCD_D1/GPIO1_6, 37 EMA_A7/LCD_D0/GPIO1_7, 39 EMA_A8/LCD_PCLK/GPIO1_8, 40 EMA_A9/LCD_HSYNC/GPIO1_9, 41 EMA_A11/LCD_ACn/ENB_CSn/GPIO1_11, 42 EMA_A12/LCD_MCLK/GPIO1_12, 44 EMA_D0/MMCSD_DAT0/UHPI_HD0/GPIO00/BOOT_12, 45 EMA_D1/MMCSD_DAT1/UHPI_HD1/GPIO0_1, 46 EMA_D2/MMCSD_DAT2/UHPI_HD2/GPIO0_2, 48 EMA_D3/MMCSD_DAT3/UHPI_HD3/GPIO0_3, 49 EMA_D4/MMCSD_DAT4/UHPI_HD4/GPIO0_4, 51 EMA_D5/MMCSD_DAT5/UHPI_HD5/GPIO0_5, 52 EMA_D6/MMCSD_DAT6/UHPI_HD6/GPIO0_6, 54 EMA_D7/MMCSD_DAT7/UHPI_HD7/GPIO0_7/BOOT_13, 55 EMA_WE/UHPI_HRWn/AXR0_12/GPIO2_3/BOOT_14
part D pins: 57 EMB_CAS, 59 EMB_WE, 60 EMB_WE_DQM10GPIO5_15, 62 EMB_D7/GPIO6_7, 63 EMB_D6/GPIO6_6, 64 EMB_D5/GPIO6_5, 66 EMB_D4/GPIO6_4, 68 EMB_D3/GPIO6_3, 70 EMB_D2/GPIO6_2, 72 EMB_D1/GPIO6_1, 73 EMB_D0/GPIO6_0, 74 EMB_D15/GPIO6_15, 76 EMB_D14/GPIO6_14, 78 EMB_D13/GPIO6_13, 79 EMB_D12/GPIO6_12, 80 EMB_D11/GPIO6_11, 82 EMB_D10/GPIO6_10, 83 EMB_D9/GPIO6_9, 84 EMB_D8/GPIO6_8, 85 EMB_WE_DQM1/GPIO5_14, 86 EMB_CLK, 88 EMB_SDCKE, 89 EMB_A12/GPIO3_13, 91 EMB_A11/GPIO7_13, 92 EMB_A9/GPIO7_11, 94 EMB_A8/GPIO7_10, 95 EMB_A7/GPIO7_9, 96 EMB_A6/GPIO7_8, 97 EMB_A5/GPIO7_7, 98 EMB_A4/GPIO7_6, 100 EMB_A3/GPIO7_5, 101 EMB_A2/GPIO7_4, 102 EMB_A1/GPIO7_3, 103 EMB_A0/GPIO7_2, 105 EMB_A10/GPIO7_12, 106 EMB_BA1/GPIO7_0, 107 EMB_BA0/GPIO7_1, 108 EMB_CS, 110 EMB_RAS
part E pins: 143 OSCIN, 144 OSCVSS (power), 145 OSCOUT, 146 ~{RESET}, 148 RTC_XI, 149 RTC_CVDD (power), 150 ~{TRST}, 152 TMS, 153 TDI, 155 TCK, 156 TDO, 157 RTCK/GPIO7_14
part F pins: 1 AXR1_0/GPIO4_0, 4 AXR1_10__GPIO5_10, 6 AXR1_11/GPIO5_11, 111 AXR0_0/RMII_TXD0/AFSR2/GPIO3_0, 112 AXR0_1/RMII_TXD1/ACLKX2/GPIO3_1, 113 AXR0_2/RMII_TXEN/AXR2_3/GPIO3_2, 115 AXR0_3/RMII_CRS_DV/AXR2_2/GPIO3_3, 116 AXR0_4/RMII_RXD_0/AXR2_1/GPIO3_4, 117 AXR0_5/RMII_RXD1/AFSX2/GPIO3_5, 118 AXR0_6/RMII_RXER/ACLKR2/GPIO3_6, 120 AXR0_7/MDIO_CLK/GPIO3_7, 121 AXR0_8/MDIO_D/GPIO3_8, 124 AXR0_10/GPIO3_11, 125 AHCLKX0/AHCLKX2/USB_REFCLKIN/GP2_11, 126 ACLKX0/ECAP0/APWM0/GP2_12, 127 AFSX0/GPIO2_13/BOOT_10, 129 AHCLKR0/RMII_MHZ_50CLK/GPIO2_14/BOOT_11, 130 ACLKR0/ECAP1/APWM1/GPIO2_15, 131 AFSR0/GPIO3_12, 132 AMUTE1/EPWMTZ/GPIO4_14, 160 AHCLKX1/EPWM0B/GPIO3_14, 162 ACLKX1/EPWM0A/GPIO3_15, 163 AFSX1/EPWMSYNCI/EPWMSYNCO/GPIO4_10, 165 ACLKR1/ECAP2/APWM2/GPIO4_12, 166 AFSR1/GPIO4_13, 168 AXR1_8/EPWM1A/GPIO4_8, 169 AXR1_7/EPWM1B/GPIO4_7, 170 AXR1_6/EPWM2A/GPIO4_6, 171 AXR1_5/EPWM2B/GPIO4_5, 173 AXR1_4/EQEP1B/GPIO4_4, 174 AXR1_3/EQEP1A/GPIO4_3, 175 AXR1_2/GPIO4_2, 176 AXR1_1/GPIO4_1
part G pins: 134 USB0_VDDA12, 135 USB0_VDDA18, 137 USB0_DP, 138 USB0_DM, 140 USB0_VSSA33
part H pins: 2 UART0_RXD/I2C0_SDA/TM64P0_IN12/GPIO5_8/BOOT_8, 3 UART0_TXD/I2C0_SCL/TM64P0_OUT12/GPIO5_9/BOOT_9, 7 SPI1_ENAn/UART2_RXD/GPIO5_12, 8 SPI1_SCSn/UART2_TXD/GPIO5_13, 9 SPI0_SCSn/UART0_RTSn/EQEP0B/GPIO5_4/BOOT_4, 11 SPI0_CLK/EQEP1I/GPIO5_2/BOOT_2, 12 SPI0_ENAn/UART0_CTSn/EQEP0A/GPIO5_3/BOOT_3, 13 SPI1_SOMI/I2C1_SCL/GPIO5_5/BOOT_5, 14 SPI1_SIMO/I2C1_SDA/GPIO5_6/BOOT_6, 16 SPI1_CLK/EQEP1S/GPIO5_7/BOOT_7, 17 SPI0_SOMI/EQEP0I/GPIO5_0/BOOT_0, 18 SPI0_SIMO/EQEP0S/GPIO5_1/BOOT_1, 122 UART1_RXD/AXR0_9/GPIO3_9, 123 UART1_TXD/AXR0_10/GPIO3_10
part B text: Core Voltage 1.2Vcc; Main Voltage 3.3Vcc

## OPA820ID
designator U?
High speed OP, 260MHz; Deliverer PartNr: 661-1053; Manufacturer: TI; Deliverer: RS; TDE-PN: IC00077; Published: 31.05.2016; PackageDescription: TSSOP8; Publisher: Sebastian Kulik; Manufacturer PartNr: OPA820ID; Price: 2.548/5
footprint TSSOP8 (Shrink Small Outline, Plastic, Thin; 8 Leads; Body Width 4.4 mm; Pitch 0.65 mm)
footprint SOIC8_N (SOIC, 8-Leads, Body 4.9x3.9mm, Pitch 1.27mm, IPC Medium Density)
footprint SOP8_L (SOIC, 8-Leads, Body 4.9x3.9mm, Pitch 1.27mm, IPC High Density)
pins: 2 IN-, 3 IN+ (power), 4 Vss, 6 OUT, 7 Vcc

## PCA9547PW
designator U?
I2C mux; Deliverer PartNr: 2212121; Manufacturer: NXP; Deliverer: Farnell; TDE-PN: IC0030; Published: 28.02.2014; PackageDescription: TSSOP24-W; Publisher: Sebastian Kulik; Manufacturer PartNr: PCA9547PW
footprint TSSOP24-W
pins: 1 A0, 2 A1, 3 RESET, 4 SD0, 5 SC0, 6 SD1, 7 SC1, 8 SD2 (power), 9 SC2 (power), 10 SD3 (power), 11 SC3 (power), 12 VSS (power), 13 SD4 (power), 14 SC4, 15 SD5, 16 SC5, 17 SD6, 18 SC6, 19 SD7, 20 SC7, 21 A2, 22 SCL, 23 SDA, 24 VDD

## PCF8574N
designator U?
I2C 8-bit expander; Deliverer PartNr: 517-0687; Manufacturer: TI; Deliverer: RS; TDE-PN: IC0079; Published: 18.07.2016; PackageDescription: DIP16; Publisher: Sebastian Kulik; Manufacturer PartNr: PCF8574N; Price: 1.34/5
footprint DIP-16 (DIP; 16 Leads; Row Spacing 7.62 mm; Pitch 2.54 mm)
pins: 1 A0, 2 A1, 3 A2, 4 P0, 5 P1, 6 P2, 7 P3, 8 GND (power), 9 P4 (power), 10 P5 (power), 11 P6 (power), 12 P7 (power), 13 INT, 14 SCL, 15 SDA (power), 16 Vcc

## PCM1808PW
designator U?
TI, step down converter, 3A max; Deliverer PartNr: 1754965; Deliverer: Farnell; TDE-PN: IC0023; Published: 28.03.2014; PackageDescription: TSSOP-14-W; Publisher: Sebastian Kulik; Manufacturer PartNr: PCM1808PW; Manufacturer: TI
footprint TSSOP-14-W
pins: 1 VREF, 2 AGND, 3 VCC, 4 VDD (power), 5 DGND, 6 SCKI, 7 LRCK, 8 BCK, 9 DOUT, 10 MD0, 11 MD1, 12 FMT, 13 VINL, 14 VINR

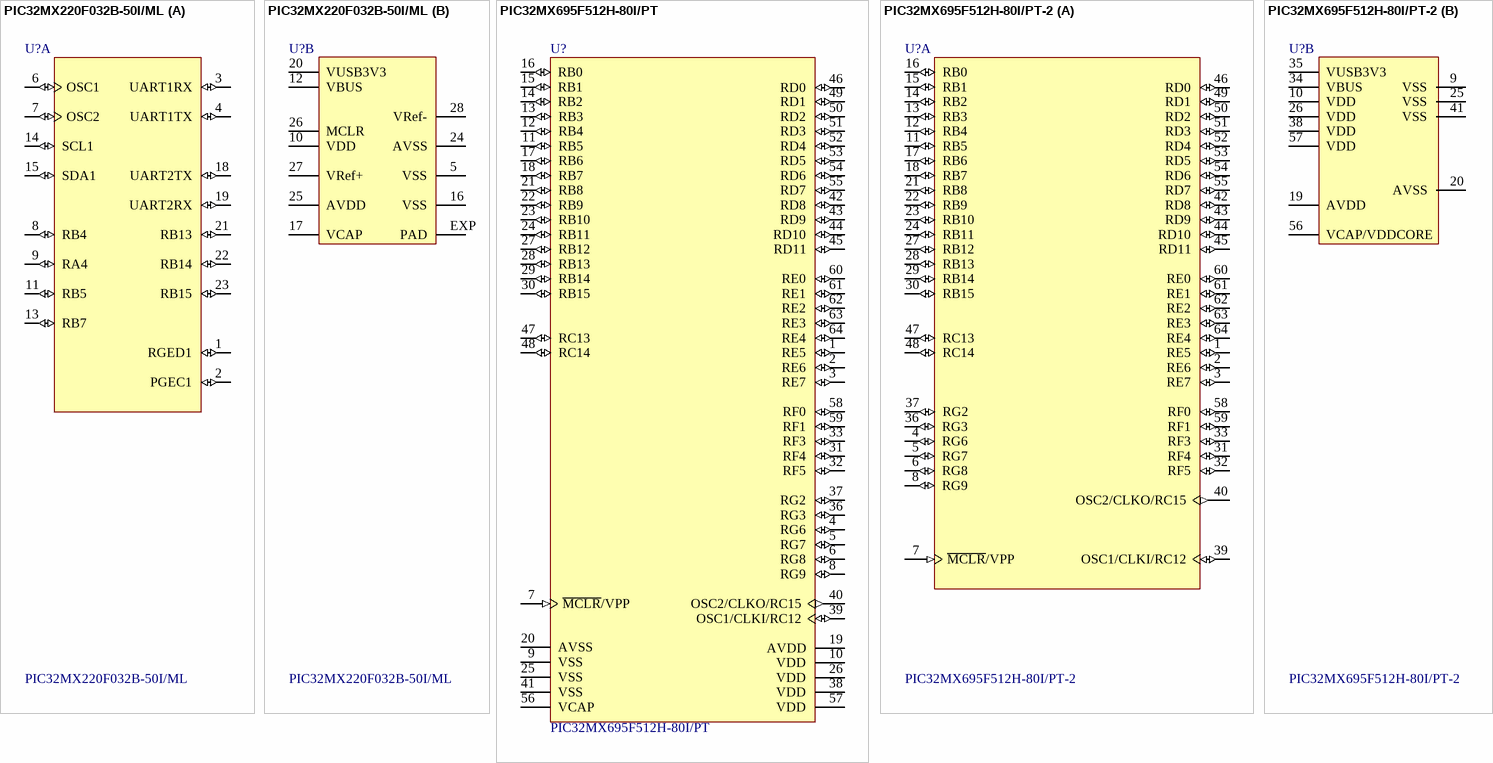
[diagram p5: symbols PIC32MX220F032B-50I/ML to PIC32MX695F512H-80I/PT-2]

## PIC32MX220F032B-50I/ML
designator U?
High Performance ROM-less Microcontroller; Deliverer PartNr: 2357345; Manufacturer: Microchip; Deliverer: Farnell; TDE-PN: IC0063; Published: 19.01.2015; PackageDescription: QFN28; Publisher: Sebastian Kulik; Manufacturer PartNr: PIC32MX220F032B-50I/ML
footprint QFN28_LONG_ERRLES-Vias (QFN28_LONG_ERRLES)
part A pins: 1 RGED1 (io), 2 PGEC1 (io), 3 UART1RX (io), 4 UART1TX (io), 6 OSC1 (io), 7 OSC2 (io), 8 RB4 (io), 9 RA4 (io), 11 RB5 (io), 13 RB7 (io), 14 SCL1 (io), 15 SDA1 (io), 18 UART2TX (io), 19 UART2RX (io), 21 RB13 (io), 22 RB14 (io), 23 RB15 (io)
part B pins: 5 VSS (power) "Ground reference for logic, I/O pins, and USB. This pin  must be connected at all times.", 10 VDD (power) "Positive supply for peripheral logic and I/O pins. This  pin must be connected at all times.", 12 VBUS (power) "USB bus power monitor", 16 VSS (power) "Ground reference for logic, I/O pins, and USB. This pin  must be connected at all times.", 17 VCAP (power) "Positive supply for analog modules. This pin must be  connected at all times.", 20 VUSB3V3 (power) "USB internal transceiver supply. If the USB module is  not used, this pin must be connected to VSS.", 24 AVSS (power) "Ground reference for analog modules. This pin must  be connected at all times", 25 AVDD (power) "Positive supply for analog modules. This pin must be  connected at all times.", 26 MCLR "Positive supply for analog modules. This pin must be  connected at all times.", 27 VRef+ (power) "Positive supply for analog modules. This pin must be  connected at all times.", 28 VRef- (power) "Positive supply for analog modules. This pin must be  connected at all times.", EXP PAD (power) "Ground reference for logic, I/O pins, and USB. This pin  must be connected at all times."

## PIC32MX695F512H-80I/PT
designator U?
High Performance ROM-less Microcontroller with External Memory Bus, 1.5K RAM, 64-Pin TQFP, 4.2 to 5.5V Supply Range, Industrial Temperature; Deliverer PartNr: 1778975; Manufacturer: Microchip; Deliverer: Farnell; TDE-PN: IC0031; Published: 11.02.2014; PackageReference: TQFP-64; Publisher: Sebastian Kulik; PackageDescription: 64-Pin Thin Plastic Quad Flat Pack 0.5 mm Pitch, 1.0/0.1 mm Lead Form; Manufacturer PartNr: PIC32MX695F512H-80I/PT
footprint TQFP-64_N1 (64-Pin Thin Plastic Quad Flat Pack 0.5 mm Pitch, 1.0/0.1 mm Lead Form, IPC Medium Density)
footprint TQFP-64_L1 (64-Pin Thin Plastic Quad Flat Pack 0.5 mm Pitch, 1.0/0.1 mm Lead Form, IPC High Density)
footprint TQFP-64_M1 (64-Pin Thin Plastic Quad Flat Pack 0.5 mm Pitch, 1.0/0.1 mm Lead Form, IPC Low Density)
pins: 1 RE5 (io), 2 RE6 (io), 3 RE7 (io), 4 RG6 (io), 5 RG7 (io), 6 RG8 (io), 7 ~{MCLR}/VPP (in), 8 RG9 (io), 9 VSS (power), 10 VDD (power), 11 RB5 (io), 12 RB4 (io), 13 RB3 (io), 14 RB2 (io), 15 RB1 (io), 16 RB0 (io), 17 RB6 (io), 18 RB7 (io), 19 AVDD (power), 20 AVSS (power), 21 RB8 (io), 22 RB9 (io), 23 RB10 (io), 24 RB11 (io), 25 VSS (power), 26 VDD (power), 27 RB12 (io), 28 RB13 (io), 29 RB14 (io), 30 RB15 (io), 31 RF4 (io), 32 RF5 (io), 33 RF3 (io), 36 RG3 (io), 37 RG2 (io), 38 VDD (power), 39 OSC1/CLKI/RC12 (io), 40 OSC2/CLKO/RC15 (out), 41 VSS (power), 42 RD8 (io), 43 RD9 (io), 44 RD10 (io), 45 RD11 (io), 46 RD0 (io), 47 RC13 (io), 48 RC14 (io), 49 RD1 (io), 50 RD2 (io), 51 RD3 (io), 52 RD4 (io), 53 RD5 (io), 54 RD6 (io), 55 RD7 (io), 56 VCAP (power), 57 VDD (power), 58 RF0 (io), 59 RF1 (io), 60 RE0 (io), 61 RE1 (io), 62 RE2 (io), 63 RE3 (io), 64 RE4 (io)

## PIC32MX695F512H-80I/PT-2
designator U?
High Performance ROM-less Microcontroller with External Memory Bus, 1.5K RAM, 64-Pin TQFP, 4.2 to 5.5V Supply Range, Industrial Temperature; Deliverer PartNr: 1778975; Manufacturer: Microchip; Deliverer: Farnell; TDE-PN: IC0031; Published: 11.02.2014; PackageDescription: TQFP-64; Publisher: Sebastian Kulik; PackageDescription: 64-Pin Thin Plastic Quad Flat Pack 0.5 mm Pitch, 1.0/0.1 mm Lead Form; Manufacturer PartNr: PIC32MX695F512H-80I/PT
footprint TQFP-64_N1 (64-Pin Thin Plastic Quad Flat Pack 0.5 mm Pitch, 1.0/0.1 mm Lead Form, IPC Medium Density)
footprint TQFP-64_L1 (64-Pin Thin Plastic Quad Flat Pack 0.5 mm Pitch, 1.0/0.1 mm Lead Form, IPC High Density)
footprint TQFP-64_M1 (64-Pin Thin Plastic Quad Flat Pack 0.5 mm Pitch, 1.0/0.1 mm Lead Form, IPC Low Density)
part A pins: 1 RE5 (io), 2 RE6 (io), 3 RE7 (io), 4 RG6 (io), 5 RG7 (io), 6 RG8 (io), 7 ~{MCLR}/VPP (in), 8 RG9 (io), 11 RB5 (io), 12 RB4 (io), 13 RB3 (io), 14 RB2 (io), 15 RB1 (io), 16 RB0 (io), 17 RB6 (io), 18 RB7 (io), 21 RB8 (io), 22 RB9 (io), 23 RB10 (io), 24 RB11 (io), 27 RB12 (io), 28 RB13 (io), 29 RB14 (io), 30 RB15 (io), 31 RF4 (io), 32 RF5 (io), 33 RF3 (io), 36 RG3 (io), 37 RG2 (io), 39 OSC1/CLKI/RC12 (io), 40 OSC2/CLKO/RC15 (out), 42 RD8 (io), 43 RD9 (io), 44 RD10 (io), 45 RD11 (io), 46 RD0 (io), 47 RC13 (io), 48 RC14 (io), 49 RD1 (io), 50 RD2 (io), 51 RD3 (io), 52 RD4 (io), 53 RD5 (io), 54 RD6 (io), 55 RD7 (io), 58 RF0 (io), 59 RF1 (io), 60 RE0 (io), 61 RE1 (io), 62 RE2 (io), 63 RE3 (io), 64 RE4 (io)
part B pins: 9 VSS (power) "Ground reference for logic, I/O pins, and USB. This pin  must be connected at all times.", 10 VDD (power) "Positive supply for peripheral logic and I/O pins. This  pin must be connected at all times.", 19 AVDD (power) "Positive supply for analog modules. This pin must be  connected at all times.", 20 AVSS (power) "Ground reference for analog modules. This pin must  be connected at all times", 25 VSS (power) "Ground reference for logic, I/O pins, and USB. This pin  must be connected at all times.", 26 VDD (power) "Positive supply for analog modules. This pin must be  connected at all times.", 34 VBUS (power) "USB bus power monitor", 35 VUSB3V3 (power) "USB internal transceiver supply. If the USB module is  not used, this pin must be connected to VSS.", 38 VDD (power) "Positive supply for analog modules. This pin must be  connected at all times.", 41 VSS (power) "Ground reference for logic, I/O pins, and USB. This pin  must be connected at all times.", 56 VCAP/VDDCORE (power) "Positive supply for analog modules. This pin must be  connected at all times.", 57 VDD (power) "Positive supply for analog modules. This pin must be  connected at all times."

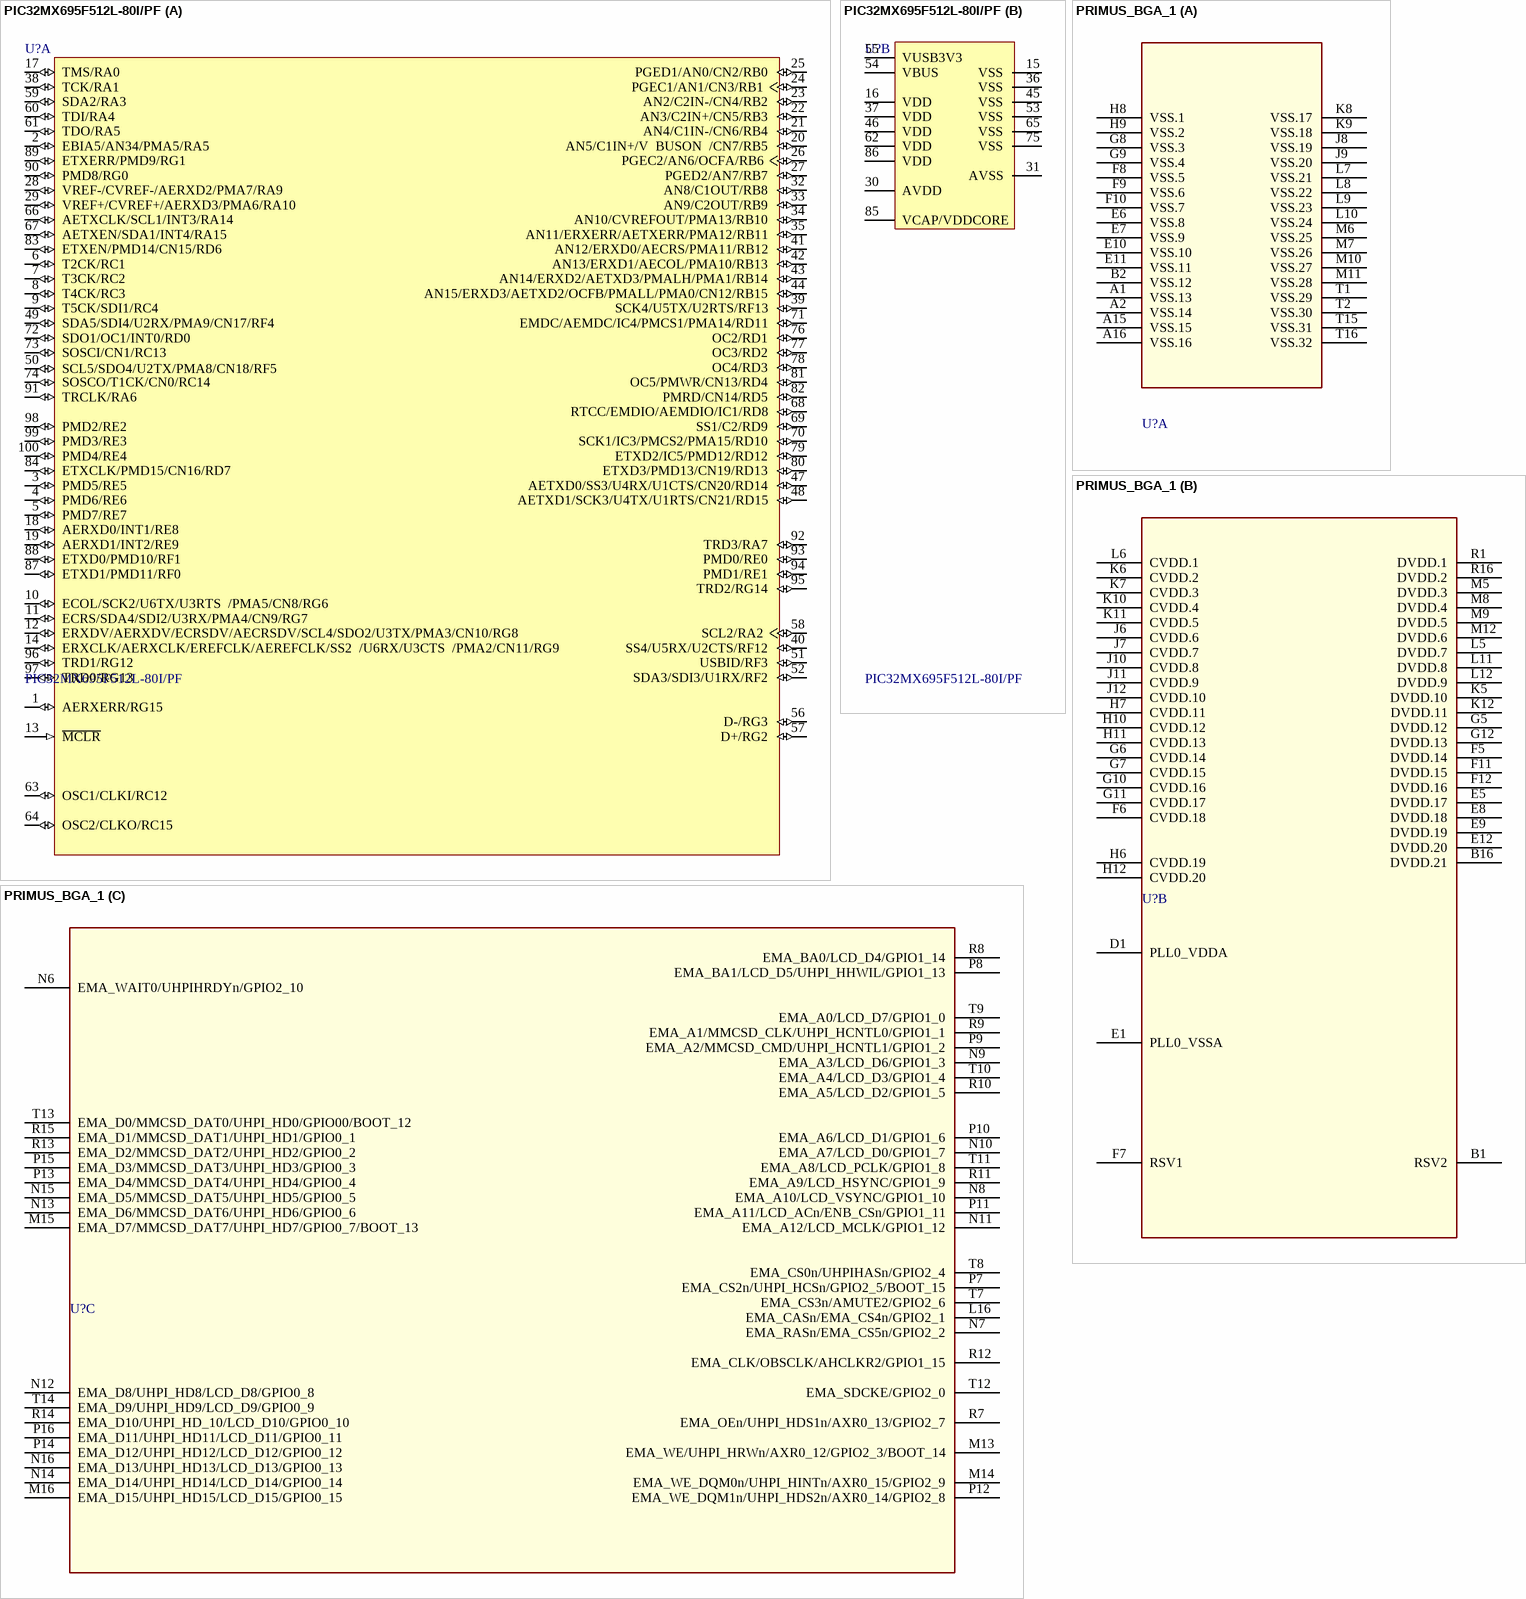
[diagram p6: symbols PIC32MX695F512L-80I/PF to PRIMUS_BGA_1]

## PIC32MX695F512L-80I/PF
designator U?
High Performance ROM-less Microcontroller with External Memory Bus, 1.5K RAM, 64-Pin TQFP, 4.2 to 5.5V Supply Range, Industrial Temperature; Deliverer PartNr: 1778489; Manufacturer: Microchip; Deliverer: Farnell; TDE-PN: IC0048; Published: 16.06.2014; PackageDescription: TQFP-100; Publisher: Sebastian Kulik; Manufacturer PartNr: PIC32MX695F512L-80I/PF
footprint MCHP-TQFP-PF100_L (QFP, 100-Leads, Body 14x14mm, Pitch 0.5mm, IPC High Density)
footprint MCHP-TQFP-PF100_M (QFP, 100-Leads, Body 14x14mm, Pitch 0.5mm, IPC Low Density)
footprint MCHP-TQFP-PF100_N (QFP, 100-Leads, Body 14x14mm, Pitch 0.5mm, IPC Medium Density)
part A pins: 1 AERXERR/RG15 (io), 2 EBIA5/AN34/PMA5/RA5 (io), 3 PMD5/RE5 (io), 4 PMD6/RE6 (io), 5 PMD7/RE7 (io), 6 T2CK/RC1 (io), 7 T3CK/RC2 (io), 8 T4CK/RC3 (io), 9 T5CK/SDI1/RC4 (io), 10 ECOL/SCK2/U6TX/U3RTS  /PMA5/CN8/RG6 (io), 11 ECRS/SDA4/SDI2/U3RX/PMA4/CN9/RG7 (io), 12 ERXDV/AERXDV/ECRSDV/AECRSDV/SCL4/SDO2/U3TX/PMA3/CN10/RG8 (io), 13 ~{MCLR} (in) "Master Clear (Reset) input. This pin is an active-low  Reset to the device.", 14 ERXCLK/AERXCLK/EREFCLK/AEREFCLK/SS2  /U6RX/U3CTS  /PMA2/CN11/RG9 (io), 17 TMS/RA0 (io), 18 AERXD0/INT1/RE8 (io), 19 AERXD1/INT2/RE9 (io), 20 AN5/C1IN+/V  BUSON  /CN7/RB5 (io), 21 AN4/C1IN-/CN6/RB4 (io), 22 AN3/C2IN+/CN5/RB3 (io), 23 AN2/C2IN-/CN4/RB2 (io), 24 PGEC1/AN1/CN3/RB1 (io), 25 PGED1/AN0/CN2/RB0 (io), 26 PGEC2/AN6/OCFA/RB6 (io), 27 PGED2/AN7/RB7 (io), 28 VREF-/CVREF-/AERXD2/PMA7/RA9 (io), 29 VREF+/CVREF+/AERXD3/PMA6/RA10 (io), 32 AN8/C1OUT/RB8 (io), 33 AN9/C2OUT/RB9 (io), 34 AN10/CVREFOUT/PMA13/RB10 (io), 35 AN11/ERXERR/AETXERR/PMA12/RB11 (io), 38 TCK/RA1 (io), 39 SCK4/U5TX/U2RTS/RF13 (io), 40 SS4/U5RX/U2CTS/RF12 (io), 41 AN12/ERXD0/AECRS/PMA11/RB12 (io), 42 AN13/ERXD1/AECOL/PMA10/RB13 (io), 43 AN14/ERXD2/AETXD3/PMALH/PMA1/RB14 (io), 44 AN15/ERXD3/AETXD2/OCFB/PMALL/PMA0/CN12/RB15 (io), 47 AETXD0/SS3/U4RX/U1CTS/CN20/RD14 (io), 48 AETXD1/SCK3/U4TX/U1RTS/CN21/RD15 (io), 49 SDA5/SDI4/U2RX/PMA9/CN17/RF4 (io), 50 SCL5/SDO4/U2TX/PMA8/CN18/RF5 (io), 51 USBID/RF3 (io), 52 SDA3/SDI3/U1RX/RF2 (io), 56 D-/RG3 (io), 57 D+/RG2 (io), 58 SCL2/RA2 (io), 59 SDA2/RA3 (io), 60 TDI/RA4 (io), 61 TDO/RA5 (io), 63 OSC1/CLKI/RC12 (io), 64 OSC2/CLKO/RC15 (io), 66 AETXCLK/SCL1/INT3/RA14 (io), 67 AETXEN/SDA1/INT4/RA15 (io), 68 RTCC/EMDIO/AEMDIO/IC1/RD8 (io), 69 SS1/C2/RD9 (io), 70 SCK1/IC3/PMCS2/PMA15/RD10 (io), 71 EMDC/AEMDC/IC4/PMCS1/PMA14/RD11 (io), 72 SDO1/OC1/INT0/RD0 (io), 73 SOSCI/CN1/RC13 (io), 74 SOSCO/T1CK/CN0/RC14 (io), 76 OC2/RD1 (io), 77 OC3/RD2 (io), 78 OC4/RD3 (io), 79 ETXD2/IC5/PMD12/RD12 (io), 80 ETXD3/PMD13/CN19/RD13 (io), 81 OC5/PMWR/CN13/RD4 (io), 82 PMRD/CN14/RD5 (io), 83 ETXEN/PMD14/CN15/RD6 (io), 84 ETXCLK/PMD15/CN16/RD7 (io), 87 ETXD1/PMD11/RF0 (io), 88 ETXD0/PMD10/RF1 (io), 89 ETXERR/PMD9/RG1 (io), 90 PMD8/RG0 (io), 91 TRCLK/RA6 (io), 92 TRD3/RA7 (io), 93 PMD0/RE0 (io), 94 PMD1/RE1 (io), 95 TRD2/RG14 (io), 96 TRD1/RG12 (io), 97 TRD0/RG13 (io), 98 PMD2/RE2 (io), 99 PMD3/RE3 (io), 100 PMD4/RE4 (io)
part B pins: 15 VSS (power) "Ground reference for logic, I/O pins, and USB. This pin  must be connected at all times.", 16 VDD (power) "Positive supply for analog modules. This pin must be  connected at all times.", 30 AVDD (power) "Positive supply for analog modules. This pin must be  connected at all times.", 31 AVSS (power) "Ground reference for analog modules. This pin must  be connected at all times", 36 VSS (power) "Ground reference for logic, I/O pins, and USB. This pin  must be connected at all times.", 37 VDD (power) "Positive supply for analog modules. This pin must be  connected at all times.", 45 VSS (power) "Ground reference for logic, I/O pins, and USB. This pin  must be connected at all times.", 46 VDD (power) "Positive supply for analog modules. This pin must be  connected at all times.", 53 VSS (power) "Ground reference for logic, I/O pins, and USB. This pin  must be connected at all times.", 54 VBUS (power) "USB bus power monitor", 55 VUSB3V3 (power) "USB internal transceiver supply. If the USB module is  not used, this pin must be connected to VSS.", 62 VDD (power) "Positive supply for analog modules. This pin must be  connected at all times.", 65 VSS (power) "Ground reference for logic, I/O pins, and USB. This pin  must be connected at all times.", 75 VSS (power) "Ground reference for logic, I/O pins, and USB. This pin  must be connected at all times.", 85 VCAP/VDDCORE (power) "Positive supply for analog modules. This pin must be  connected at all times.", 86 VDD (power) "Positive supply for analog modules. This pin must be  connected at all times."

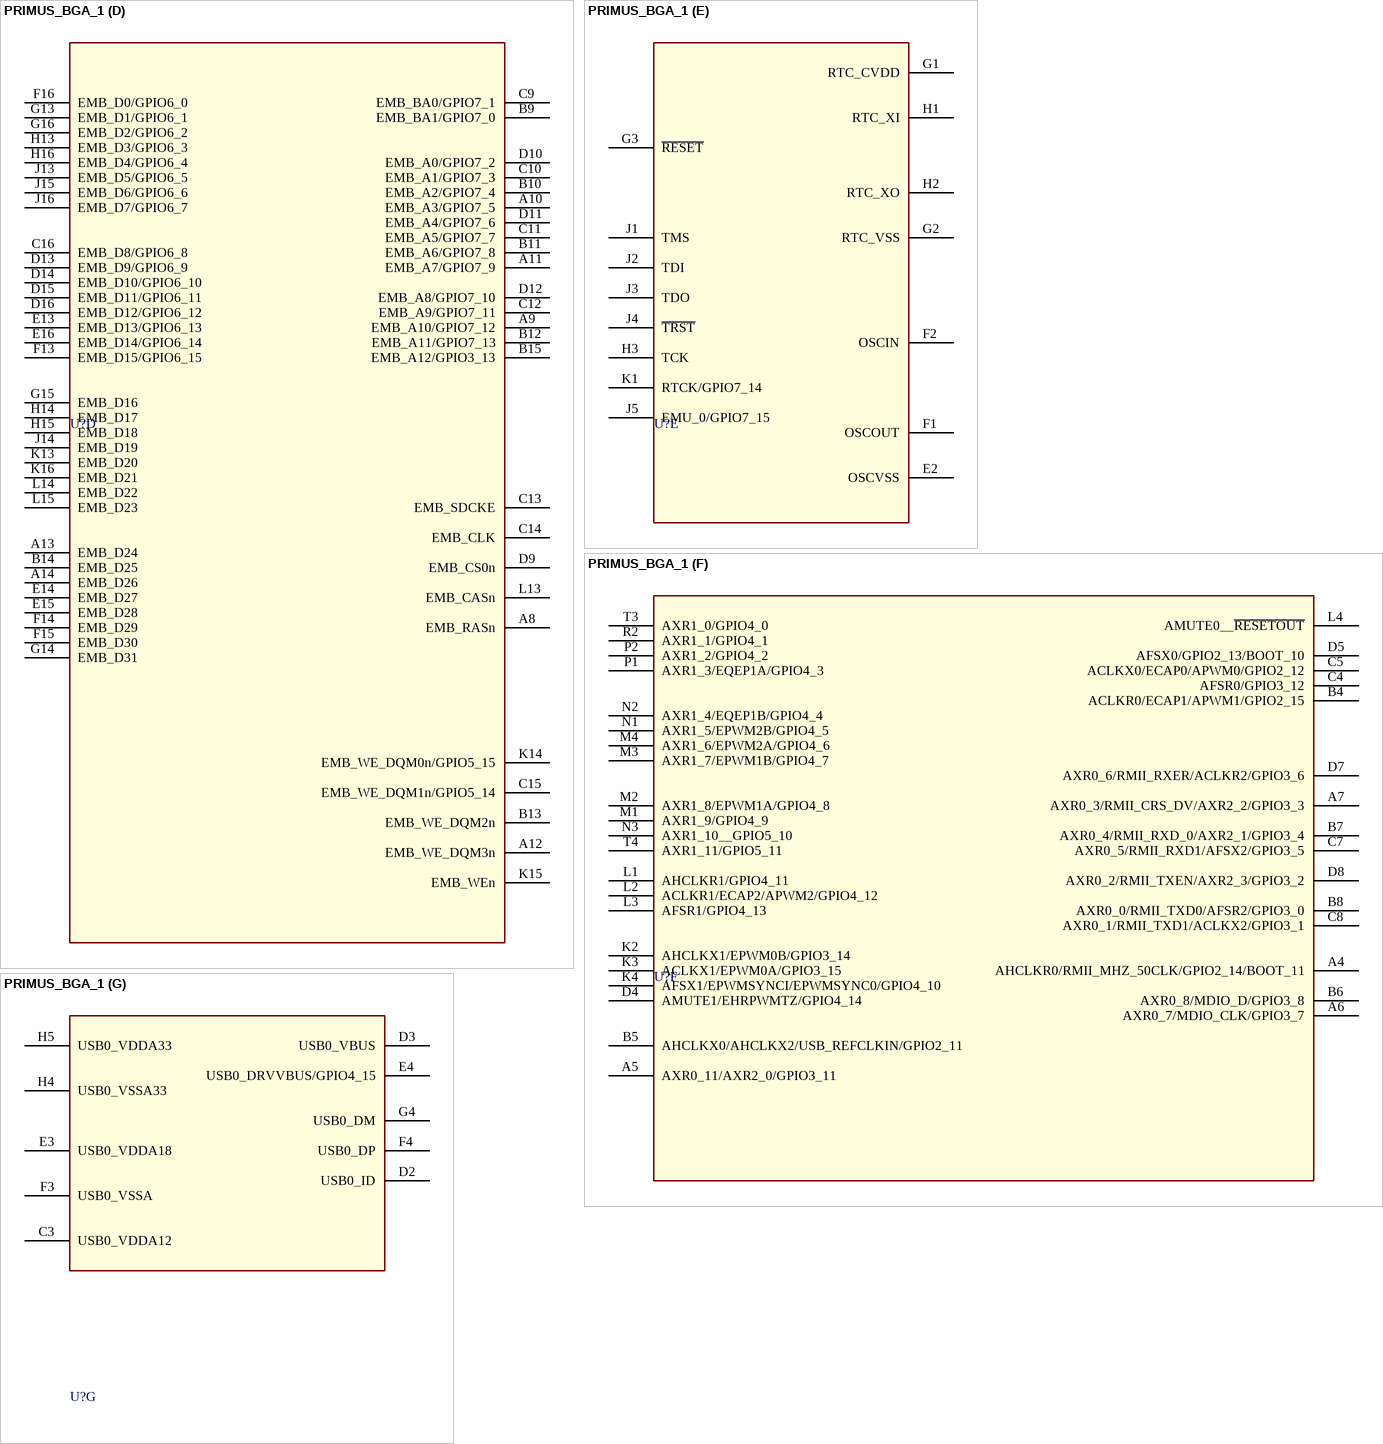
[diagram p7: symbol PRIMUS_BGA_1]

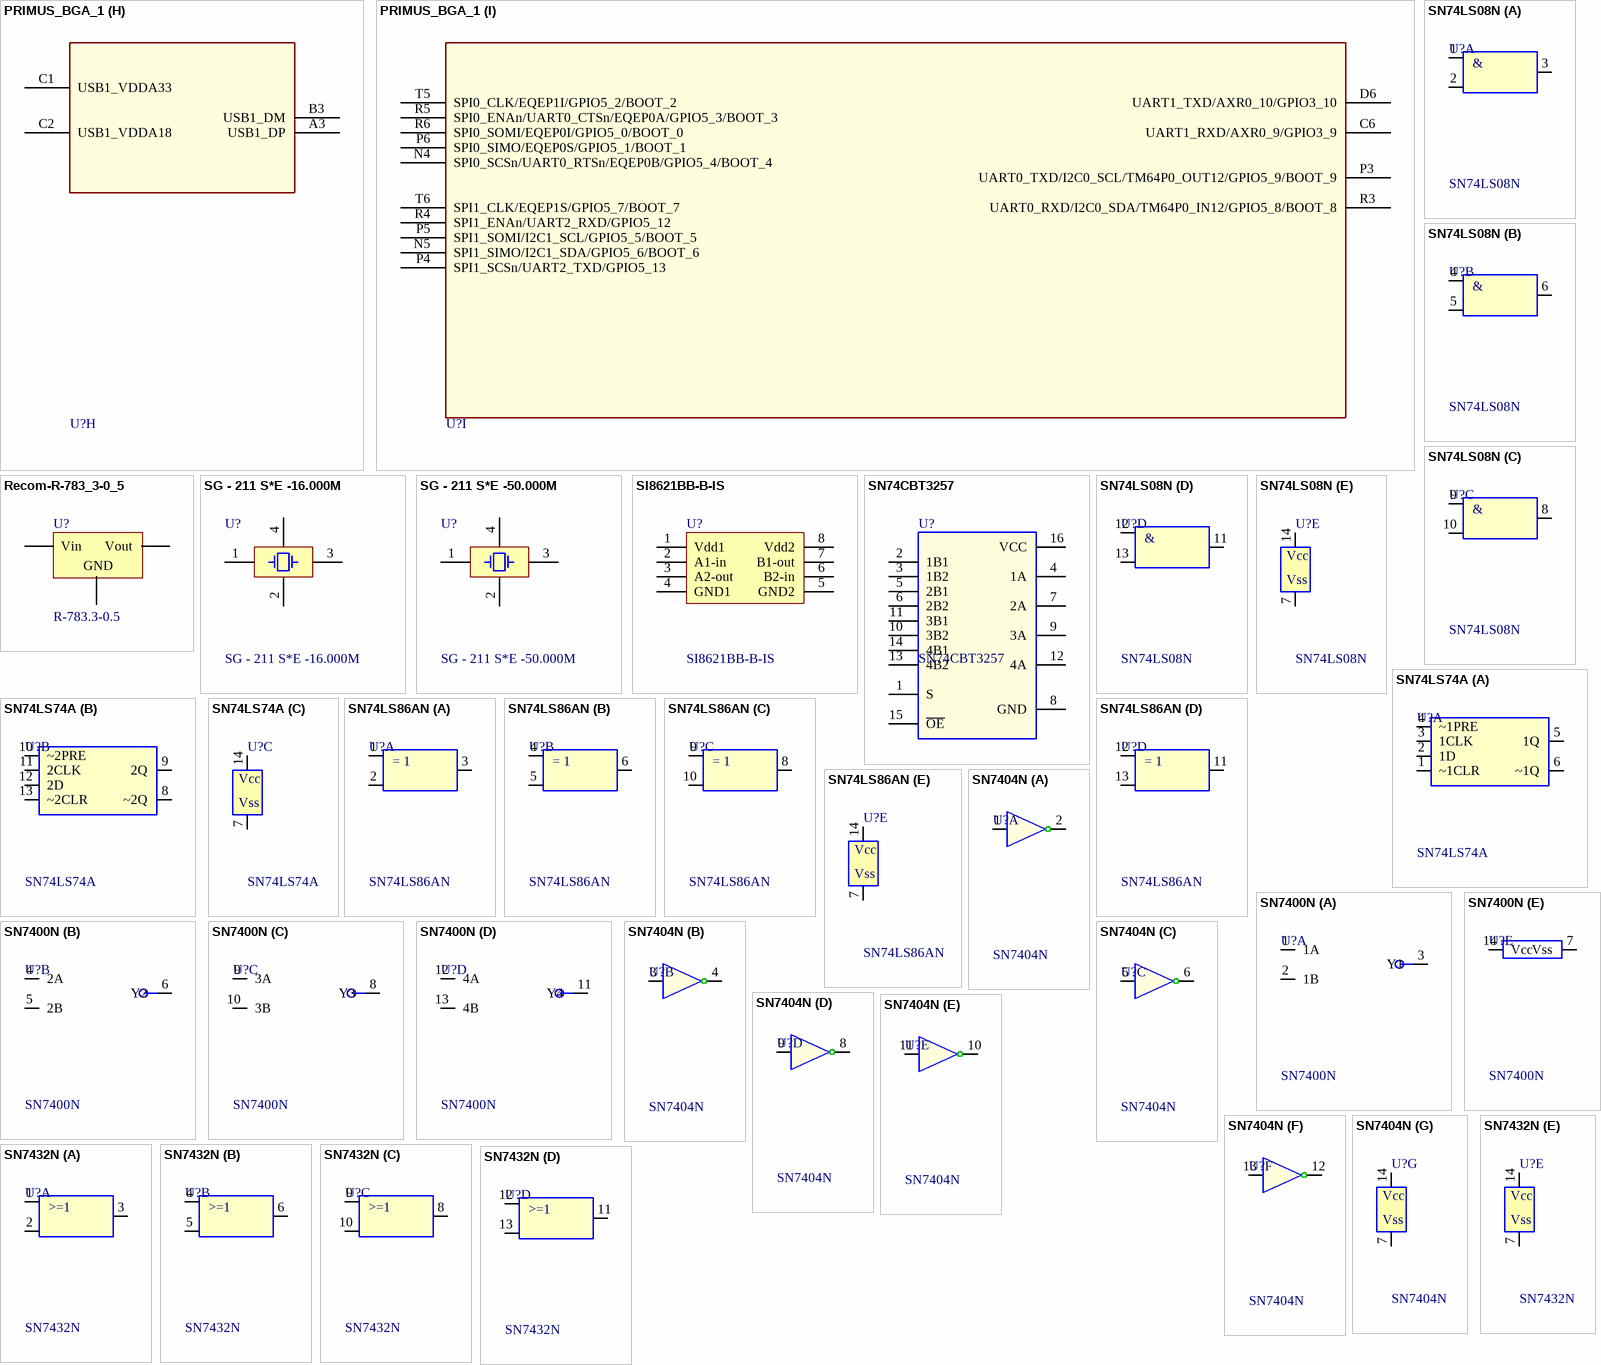
[diagram p8: symbols PRIMUS_BGA_1 to SN7432N]